# Altium integrated library Xilinx Spartan-3E.IntLib: 220 symbols (part 27 of 30)
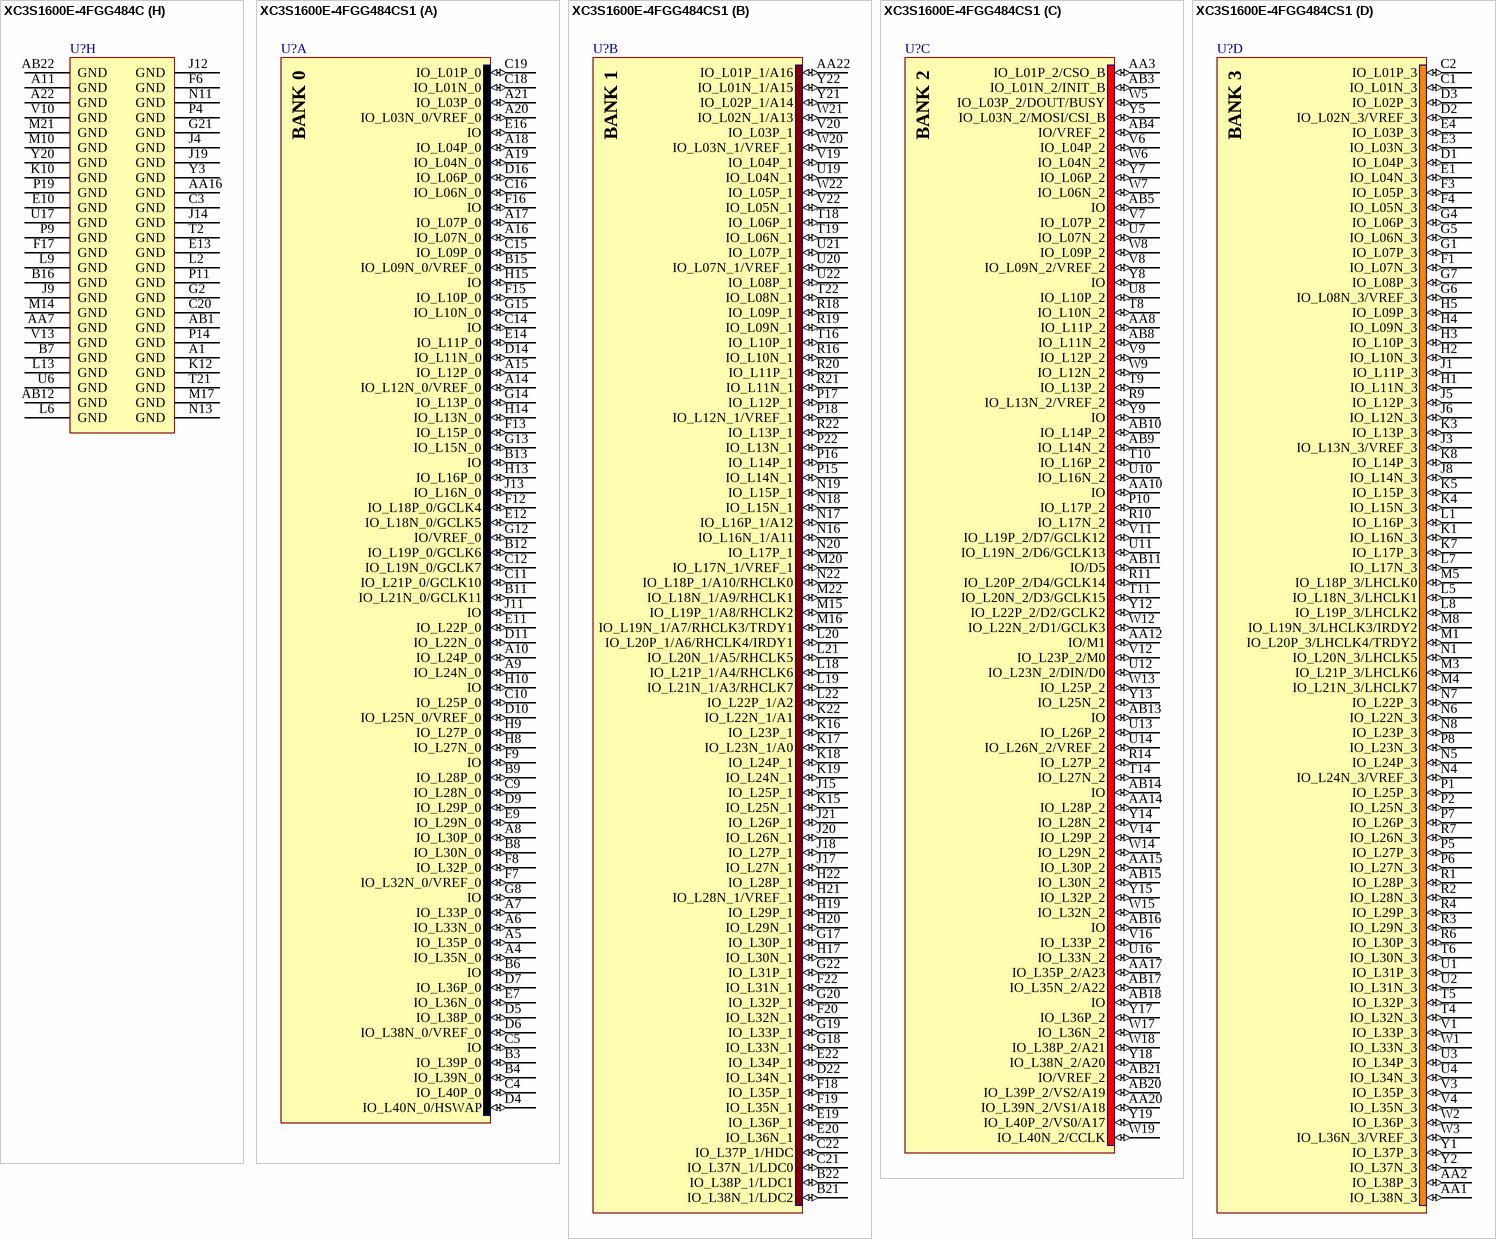
[diagram p220: symbols XC3S1600E-4FGG484C to XC3S1600E-4FGG484CS1]

## XC3S1600E-4FGG484C
designator U?
Spartan-3E 1.2V FPGA, 376 User I/Os, 484-Ball FBGA, Standard Performance, Commercial Grade, Pb-Free; Published: 6-Jun-2005; LatestRevisionDate: 30-Oct-2009; LatestRevisionNote: Updated to datasheet version 3.8 Aug-2009.; DatasheetVersion: ver3.8, Aug-2009; PackageVersion: ver1.1, Dec-2008; PackageReference: FGG484; Publisher: Altium Limited; PackageDescription: 484-Ball Fine Pitch Ball Grid Array 1.00 mm Pitch (FGG484) - Pb-Free; Supplier 1: Farnell; Supplier Part Number 1: 1762480; Supplier 2: Newark; Supplier Part Number 2: 52R3819; Code_JEDEC: MS-034-AAJ-1; Code_IPC: BGA100P22X22-484; ComponentLink1Description: Spartan-3E Datasheet; ComponentLink1URL: http://www.xilinx.com/support/documentation/data_sheets/ds312.pdf; ComponentLink2Description: FGG484 Package Drawing; ComponentLink2URL: http://www.xilinx.com/support/documentation/package_specs/fg484.pdf; ComponentLink3Description: Spartan-3E Documents; ComponentLink3URL: http://www.xilinx.com/support/documentation/spartan-3e.htm; ComponentLink4Description: Xilinx.com Home; ComponentLink4URL: http://www.xilinx.com
footprint FGG484 (BGA, 484-Leads, Body 23x23mm, Pitch 1mm)
signal-integrity model XC3S1600E_FGG484 (Spartan-3E)
part A pins: A4 IO_L35N_0 (io), A5 IO_L35P_0 (io), A6 IO_L33N_0 (io), A7 IO_L33P_0 (io), A8 IO_L30P_0 (io), A9 IO_L24N_0 (io), A10 IO_L24P_0 (io), A14 IO_L12N_0/VREF_0 (io), A15 IO_L12P_0 (io), A16 IO_L07N_0 (io), A17 IO_L07P_0 (io), A18 IO_L04P_0 (io), A19 IO_L04N_0 (io), A20 IO_L03N_0/VREF_0 (io), A21 IO_L03P_0 (io), B3 IO_L39P_0 (io), B4 IO_L39N_0 (io), B6 IO (io), B8 IO_L30N_0 (io), B9 IO_L28P_0 (io), B11 IO_L21N_0/GCLK11 (io), B12 IO_L19P_0/GCLK6 (io), B13 IO (io), B15 IO_L09N_0/VREF_0 (io), C4 IO_L40P_0 (io), C5 IO (io), C9 IO_L28N_0 (io), C10 IO_L25P_0 (io), C11 IO_L21P_0/GCLK10 (io), C12 IO_L19N_0/GCLK7 (io), C14 IO (io), C15 IO_L09P_0 (io), C16 IO_L06N_0 (io), C18 IO_L01N_0 (io), C19 IO_L01P_0 (io), D4 IO_L40N_0/HSWAP (io), D5 IO_L38P_0 (io), D6 IO_L38N_0/VREF_0 (io), D7 IO_L36P_0 (io), D9 IO_L29P_0 (io), D10 IO_L25N_0/VREF_0 (io), D11 IO_L22N_0 (io), D14 IO_L11N_0 (io), D16 IO_L06P_0 (io), E7 IO_L36N_0 (io), E9 IO_L29N_0 (io), E11 IO_L22P_0 (io), E12 IO_L18N_0/GCLK5 (io), E14 IO_L11P_0 (io), E16 IO (io), F7 IO_L32N_0/VREF_0 (io), F8 IO_L32P_0 (io), F9 IO (io), F12 IO_L18P_0/GCLK4 (io), F13 IO_L15P_0 (io), F15 IO_L10P_0 (io), F16 IO (io), G8 IO (io), G12 IO/VREF_0 (io), G13 IO_L15N_0 (io), G14 IO_L13P_0 (io), G15 IO_L10N_0 (io), H8 IO_L27N_0 (io), H9 IO_L27P_0 (io), H10 IO (io), H13 IO_L16P_0 (io), H14 IO_L13N_0 (io), H15 IO (io), J11 IO (io), J13 IO_L16N_0 (io)
part B pins: AA22 IO_L01P_1/A16 (io), B21 IO_L38N_1/LDC2 (io), B22 IO_L38P_1/LDC1 (io), C21 IO_L37N_1/LDC0 (io), C22 IO_L37P_1/HDC (io), D22 IO_L34N_1 (io), E19 IO_L36P_1 (io), E20 IO_L36N_1 (io), E22 IO_L34P_1 (io), F18 IO_L35P_1 (io), F19 IO_L35N_1 (io), F20 IO_L32N_1 (io), F22 IO_L31N_1 (io), G17 IO_L30P_1 (io), G18 IO_L33N_1 (io), G19 IO_L33P_1 (io), G20 IO_L32P_1 (io), G22 IO_L31P_1 (io), H17 IO_L30N_1 (io), H19 IO_L29P_1 (io), H20 IO_L29N_1 (io), H21 IO_L28N_1/VREF_1 (io), H22 IO_L28P_1 (io), J15 IO_L25P_1 (io), J17 IO_L27N_1 (io), J18 IO_L27P_1 (io), J20 IO_L26N_1 (io), J21 IO_L26P_1 (io), K15 IO_L25N_1 (io), K16 IO_L23P_1 (io), K17 IO_L23N_1/A0 (io), K18 IO_L24P_1 (io), K19 IO_L24N_1 (io), K22 IO_L22N_1/A1 (io), L18 IO_L21P_1/A4/RHCLK6 (io), L19 IO_L21N_1/A3/RHCLK7 (io), L20 IO_L20P_1/A6/RHCLK4/IRDY1 (io), L21 IO_L20N_1/A5/RHCLK5 (io), L22 IO_L22P_1/A2 (io), M15 IO_L19P_1/A8/RHCLK2 (io), M16 IO_L19N_1/A7/RHCLK3/TRDY1 (io), M20 IO_L17N_1/VREF_1 (io), M22 IO_L18N_1/A9/RHCLK1 (io), N16 IO_L16N_1/A11 (io), N17 IO_L16P_1/A12 (io), N18 IO_L15N_1 (io), N19 IO_L15P_1 (io), N20 IO_L17P_1 (io), N22 IO_L18P_1/A10/RHCLK0 (io), P15 IO_L14N_1 (io), P16 IO_L14P_1 (io), P17 IO_L12P_1 (io), P18 IO_L12N_1/VREF_1 (io), P22 IO_L13N_1 (io), R16 IO_L10N_1 (io), R18 IO_L09P_1 (io), R19 IO_L09N_1 (io), R20 IO_L11P_1 (io), R21 IO_L11N_1 (io), R22 IO_L13P_1 (io), T16 IO_L10P_1 (io), T18 IO_L06P_1 (io), T19 IO_L06N_1 (io), T22 IO_L08N_1 (io), U19 IO_L04N_1 (io), U20 IO_L07N_1/VREF_1 (io), U21 IO_L07P_1 (io), U22 IO_L08P_1 (io), V19 IO_L04P_1 (io), V20 IO_L03P_1 (io), V22 IO_L05N_1 (io), W20 IO_L03N_1/VREF_1 (io), W21 IO_L02N_1/A13 (io), W22 IO_L05P_1 (io), Y21 IO_L02P_1/A14 (io), Y22 IO_L01N_1/A15 (io)
part C pins: AA3 IO_L01P_2/CSO_B (io), AA8 IO_L11P_2 (io), AA10 IO (io), AA12 IO/M1 (io), AA14 IO_L28P_2 (io), AA15 IO_L30P_2 (io), AA17 IO_L35P_2/A23 (io), AA20 IO_L39N_2/VS1/A18 (io), AB3 IO_L01N_2/INIT_B (io), AB4 IO/VREF_2 (io), AB5 IO (io), AB8 IO_L11N_2 (io), AB9 IO_L14N_2 (io), AB10 IO_L14P_2 (io), AB11 IO/D5 (io), AB13 IO (io), AB14 IO (io), AB15 IO_L30N_2 (io), AB16 IO (io), AB17 IO_L35N_2/A22 (io), AB18 IO (io), AB20 IO_L39P_2/VS2/A19 (io), AB21 IO/VREF_2 (io), P10 IO_L17P_2 (io), R9 IO_L13N_2/VREF_2 (io), R10 IO_L17N_2 (io), R11 IO_L20P_2/D4/GCLK14 (io), R14 IO_L27P_2 (io), T8 IO_L10N_2 (io), T9 IO_L13P_2 (io), T10 IO_L16P_2 (io), T11 IO_L20N_2/D3/GCLK15 (io), T14 IO_L27N_2 (io), U7 IO_L07N_2 (io), U8 IO_L10P_2 (io), U10 IO_L16N_2 (io), U11 IO_L19N_2/D6/GCLK13 (io), U12 IO_L23N_2/DIN/D0 (io), U13 IO_L26P_2 (io), U14 IO_L26N_2/VREF_2 (io), U16 IO_L33N_2 (io), V6 IO_L04P_2 (io), V7 IO_L07P_2 (io), V8 IO_L09N_2/VREF_2 (io), V9 IO_L12P_2 (io), V11 IO_L19P_2/D7/GCLK12 (io), V12 IO_L23P_2/M0 (io), V14 IO_L29P_2 (io), V16 IO_L33P_2 (io), W5 IO_L03P_2/DOUT/BUSY (io), W6 IO_L04N_2 (io), W7 IO_L06N_2 (io), W8 IO_L09P_2 (io), W9 IO_L12N_2 (io), W12 IO_L22N_2/D1/GCLK3 (io), W13 IO_L25P_2 (io), W14 IO_L29N_2 (io), W15 IO_L32N_2 (io), W17 IO_L36N_2 (io), W18 IO_L38P_2/A21 (io), W19 IO_L40N_2/CCLK (io), Y5 IO_L03N_2/MOSI/CSI_B (io), Y7 IO_L06P_2 (io), Y8 IO (io), Y9 IO (io), Y12 IO_L22P_2/D2/GCLK2 (io), Y13 IO_L25N_2 (io), Y14 IO_L28N_2 (io), Y15 IO_L32P_2 (io), Y17 IO_L36P_2 (io), Y18 IO_L38N_2/A20 (io), Y19 IO_L40P_2/VS0/A17 (io)
part D pins: AA1 IO_L38N_3 (io), AA2 IO_L38P_3 (io), C1 IO_L01N_3 (io), C2 IO_L01P_3 (io), D1 IO_L04P_3 (io), D2 IO_L02N_3/VREF_3 (io), D3 IO_L02P_3 (io), E1 IO_L04N_3 (io), E3 IO_L03N_3 (io), E4 IO_L03P_3 (io), F1 IO_L07N_3 (io), F3 IO_L05P_3 (io), F4 IO_L05N_3 (io), G1 IO_L07P_3 (io), G4 IO_L06P_3 (io), G5 IO_L06N_3 (io), G6 IO_L08N_3/VREF_3 (io), G7 IO_L08P_3 (io), H1 IO_L11N_3 (io), H2 IO_L10N_3 (io), H3 IO_L10P_3 (io), H4 IO_L09N_3 (io), H5 IO_L09P_3 (io), J1 IO_L11P_3 (io), J3 IO_L13N_3/VREF_3 (io), J5 IO_L12P_3 (io), J6 IO_L12N_3 (io), J8 IO_L14N_3 (io), K1 IO_L16N_3 (io), K3 IO_L13P_3 (io), K4 IO_L15N_3 (io), K5 IO_L15P_3 (io), K7 IO_L17P_3 (io), K8 IO_L14P_3 (io), L1 IO_L16P_3 (io), L5 IO_L18N_3/LHCLK1 (io), L7 IO_L17N_3 (io), L8 IO_L19P_3/LHCLK2 (io), M1 IO_L20P_3/LHCLK4/TRDY2 (io), M3 IO_L21P_3/LHCLK6 (io), M4 IO_L21N_3/LHCLK7 (io), M5 IO_L18P_3/LHCLK0 (io), M8 IO_L19N_3/LHCLK3/IRDY2 (io), N1 IO_L20N_3/LHCLK5 (io), N4 IO_L24N_3/VREF_3 (io), N5 IO_L24P_3 (io), N6 IO_L22N_3 (io), N7 IO_L22P_3 (io), N8 IO_L23P_3 (io), P1 IO_L25P_3 (io), P2 IO_L25N_3 (io), P5 IO_L27P_3 (io), P6 IO_L27N_3 (io), P7 IO_L26P_3 (io), P8 IO_L23N_3 (io), R1 IO_L28P_3 (io), R2 IO_L28N_3 (io), R3 IO_L29N_3 (io), R4 IO_L29P_3 (io), R6 IO_L30P_3 (io), R7 IO_L26N_3 (io), T4 IO_L32N_3 (io), T5 IO_L32P_3 (io), T6 IO_L30N_3 (io), U1 IO_L31P_3 (io), U2 IO_L31N_3 (io), U3 IO_L34P_3 (io), U4 IO_L34N_3 (io), V1 IO_L33P_3 (io), V3 IO_L35P_3 (io), V4 IO_L35N_3 (io), W1 IO_L33N_3 (io), W2 IO_L36P_3 (io), W3 IO_L36N_3/VREF_3 (io), Y1 IO_L37P_3 (io), Y2 IO_L37N_3 (io)
part E pins: A2 IP_L37P_0 (in), A3 IP_L37N_0 (in), A12 IP_L17N_0 (in), A13 IP_L17P_0 (in), AA4 IP_L02N_2 (in), AA6 IP_L05P_2 (in), AA11 IP_L18N_2/VREF_2 (in), AA19 IP_L37N_2 (in), AB2 IP (in), AB6 IP_L08P_2 (in), AB7 IP_L08N_2 (in), AB19 IP_L37P_2 (in), B17 IP_L05P_0 (in), B19 IP (in), C6 IP_L34P_0 (in), C7 IP_L34N_0 (in), C8 IP_L31N_0 (in), C13 IP_L14P_0 (in), C17 IP_L05N_0 (in), D8 IP_L31P_0 (in), D13 IP_L14N_0 (in), D15 IP_L08P_0 (in), D17 IP_L02N_0 (in), D18 IP_L02P_0 (in), D20 IP (in), D21 IP/VREF_1 (in), E6 IP (in), E15 IP_L08N_0 (in), F2 IP (in), F5 IP (in), F10 IP_L23N_0 (in), F11 IP_L23P_0 (in), F21 IP (in), G3 IP (in), G9 IP_L26N_0 (in), G10 IP_L26P_0 (in), G16 IP (in), H7 IP (in), H11 IP_L20N_0/GCLK9 (in), H12 IP_L20P_0/GCLK8 (in), H16 IP (in), J7 IP (in), J16 IP (in), J22 IP (in), K2 IP (in), K6 IP (in), K20 IP (in), L3 IP/VREF_3 (in), L15 IP (in), L17 IP/VREF_1 (in), M2 IP (in), M6 IP (in), M18 IP (in), N3 IP (in), N15 IP (in), N21 IP (in), P3 IP (in), P12 IP_L21N_2/M2/GCLK1 (in), P20 IP (in), R8 IP (in), R12 IP_L21P_2/RDWR_B/GCLK0 (in), R13 IP_L24N_2 (in), R15 IP (in), T1 IP (in), T3 IP/VREF_3 (in), T7 IP (in), T13 IP_L24P_2 (in), T15 IP_L31N_2/VREF_2 (in), T17 IP (in), T20 IP (in), U5 IP (in), U15 IP_L31P_2 (in), U18 IP (in), V17 IP (in), W4 IP (in), W10 IP_L15P_2 (in), W16 IP_L34P_2 (in), Y4 IP_L02P_2 (in), Y6 IP_L05N_2 (in), Y10 IP_L15N_2 (in), Y11 IP_L18P_2 (in), Y16 IP_L34N_2 (in)
part F pins: AA21 DONE (io), B1 PROG_B (in), B2 TDI (in), B20 TDO (out), D19 TMS (in), E17 TCK (in)
part G pins: AA5 VCCO_2 (power), AA9 VCCO_2 (power), AA13 VCCO_2 (power), AA18 VCCO_2 (power), B5 VCCO_0 (power), B10 VCCO_0 (power), B14 VCCO_0 (power), B18 VCCO_0 (power), D12 VCCAUX (power), E2 VCCO_3 (power), E5 VCCAUX (power), E8 VCCO_0 (power), E18 VCCAUX (power), E21 VCCO_1 (power), F14 VCCO_0 (power), G11 VCCO_0 (power), H6 VCCO_3 (power), H18 VCCO_1 (power), J2 VCCO_3 (power), J10 VCCINT (power), K9 VCCINT (power), K11 VCCINT (power), K13 VCCINT (power), K14 VCCAUX (power), K21 VCCO_1 (power), L4 VCCAUX (power), L10 VCCINT (power), L11 VCCINT (power), L12 VCCINT (power), L14 VCCINT (power), L16 VCCO_1 (power), M7 VCCO_3 (power), M9 VCCINT (power), M11 VCCINT (power), M12 VCCINT (power), M13 VCCINT (power), M19 VCCAUX (power), N2 VCCO_3 (power), N9 VCCAUX (power), N10 VCCINT (power), N12 VCCINT (power), N14 VCCINT (power), P13 VCCINT (power), P21 VCCO_1 (power), R5 VCCO_3 (power), R17 VCCO_1 (power), T12 VCCO_2 (power), U9 VCCO_2 (power), V2 VCCO_3 (power), V5 VCCAUX (power), V15 VCCO_2 (power), V18 VCCAUX (power), V21 VCCO_1 (power), W11 VCCAUX (power)
part H pins: A1 GND (power), A11 GND (power), A22 GND (power), AA7 GND (power), AA16 GND (power), AB1 GND (power), AB12 GND (power), AB22 GND (power), B7 GND (power), B16 GND (power), C3 GND (power), C20 GND (power), E10 GND (power), E13 GND (power), F6 GND (power), F17 GND (power), G2 GND (power), G21 GND (power), J4 GND (power), J9 GND (power), J12 GND (power), J14 GND (power), J19 GND (power), K10 GND (power), K12 GND (power), L2 GND (power), L6 GND (power), L9 GND (power), L13 GND (power), M10 GND (power), M14 GND (power), M17 GND (power), M21 GND (power), N11 GND (power), N13 GND (power), P4 GND (power), P9 GND (power), P11 GND (power), P14 GND (power), P19 GND (power), T2 GND (power), T21 GND (power), U6 GND (power), U17 GND (power), V10 GND (power), V13 GND (power), Y3 GND (power), Y20 GND (power)
part A text: BANK 0
part B text: BANK 1
part C text: BANK 2
part D text: BANK 3

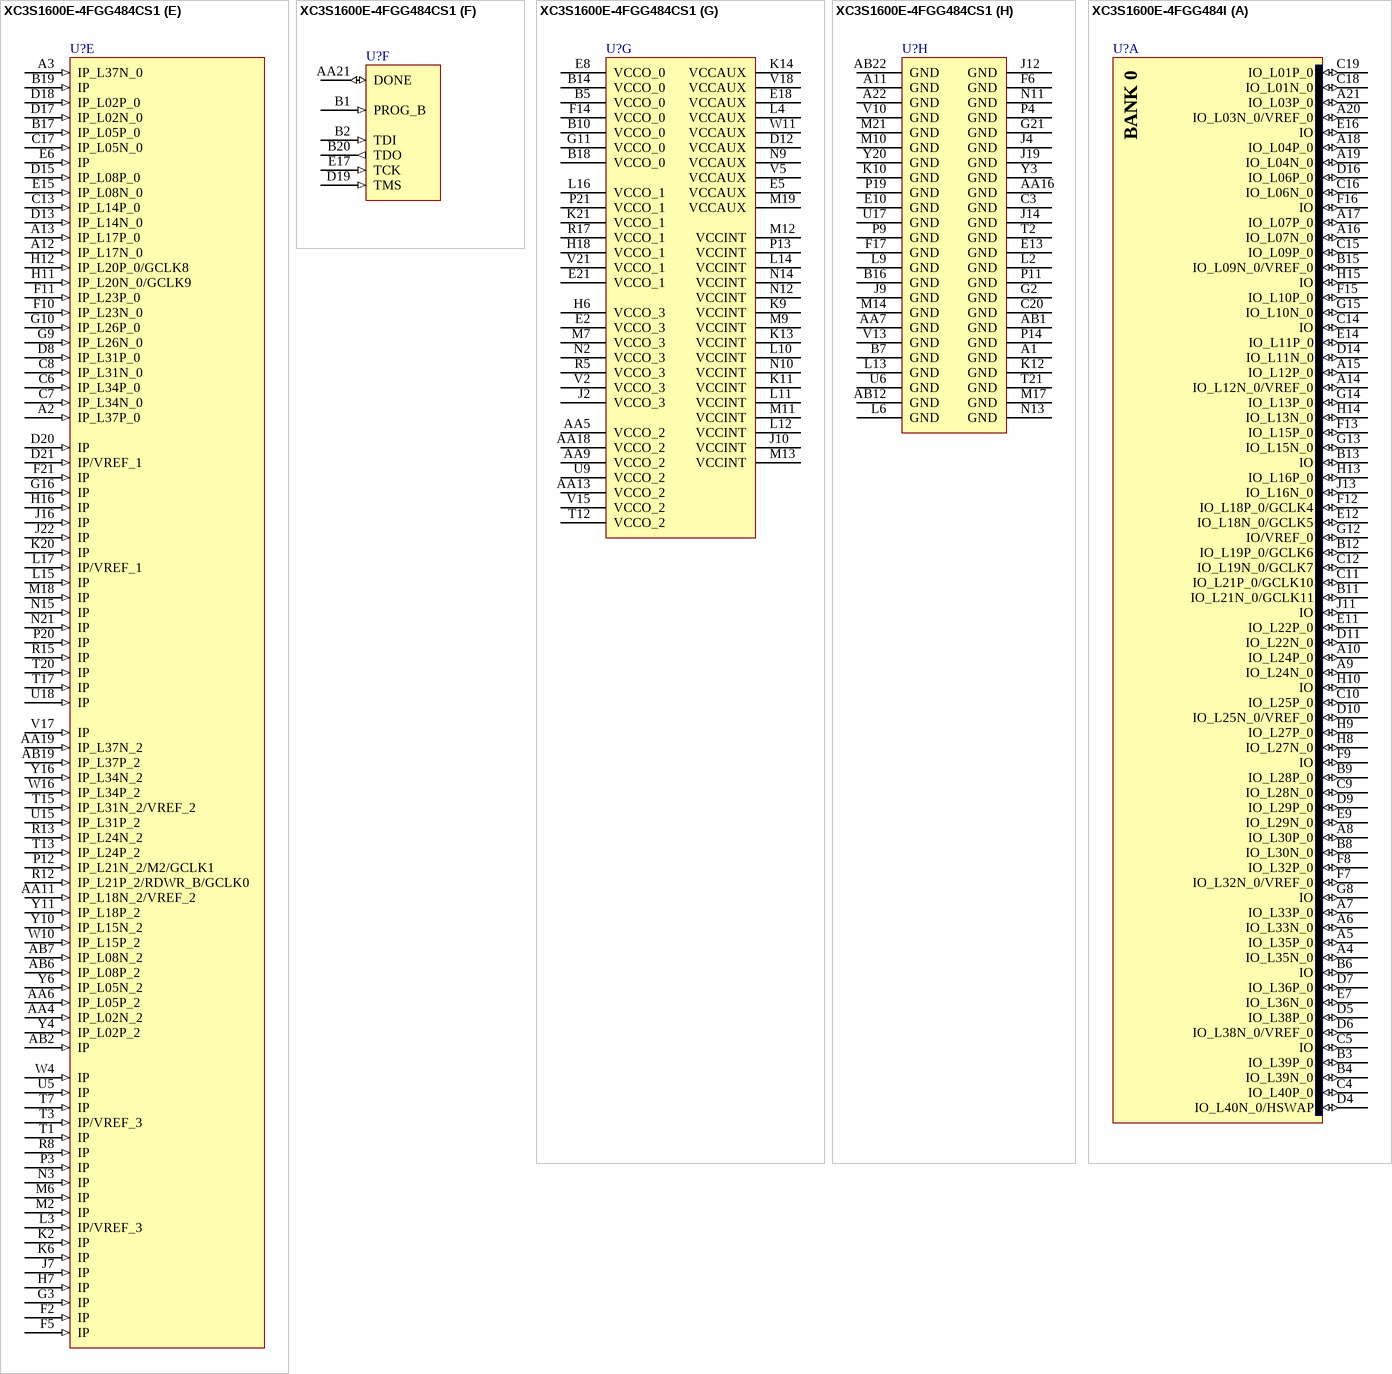
[diagram p172: symbols XC3S1600E-4FGG484CS1 to XC3S1600E-4FGG484I]

## XC3S1600E-4FGG484CS1
designator U?
Spartan-3E 1.2V FPGA, 376 User I/Os, 484-Ball FBGA, Standard Performance, Commercial Grade, Stepping 1, Pb-Free; Published: 14-May-2007; LatestRevisionDate: 30-Oct-2009; LatestRevisionNote: Updated to datasheet version 3.8 Aug-2009.; DatasheetVersion: ver3.8, Aug-2009; PackageVersion: ver1.1, Dec-2008; PackageReference: FGG484; Publisher: Altium Limited; PackageDescription: 484-Ball Fine Pitch Ball Grid Array 1.00 mm Pitch (FGG484) - Pb-Free; Code_JEDEC: MS-034-AAJ-1; Code_IPC: BGA100P22X22-484; ComponentLink1Description: Spartan-3E Datasheet; ComponentLink1URL: http://www.xilinx.com/support/documentation/data_sheets/ds312.pdf; ComponentLink2Description: FGG484 Package Drawing; ComponentLink2URL: http://www.xilinx.com/support/documentation/package_specs/fg484.pdf; ComponentLink3Description: Spartan-3E Documents; ComponentLink3URL: http://www.xilinx.com/support/documentation/spartan-3e.htm; ComponentLink4Description: Xilinx.com Home; ComponentLink4URL: http://www.xilinx.com
footprint FGG484 (BGA, 484-Leads, Body 23x23mm, Pitch 1mm)
signal-integrity model XC3S1600E_FGG484 (Spartan-3E)
part A pins: A4 IO_L35N_0 (io), A5 IO_L35P_0 (io), A6 IO_L33N_0 (io), A7 IO_L33P_0 (io), A8 IO_L30P_0 (io), A9 IO_L24N_0 (io), A10 IO_L24P_0 (io), A14 IO_L12N_0/VREF_0 (io), A15 IO_L12P_0 (io), A16 IO_L07N_0 (io), A17 IO_L07P_0 (io), A18 IO_L04P_0 (io), A19 IO_L04N_0 (io), A20 IO_L03N_0/VREF_0 (io), A21 IO_L03P_0 (io), B3 IO_L39P_0 (io), B4 IO_L39N_0 (io), B6 IO (io), B8 IO_L30N_0 (io), B9 IO_L28P_0 (io), B11 IO_L21N_0/GCLK11 (io), B12 IO_L19P_0/GCLK6 (io), B13 IO (io), B15 IO_L09N_0/VREF_0 (io), C4 IO_L40P_0 (io), C5 IO (io), C9 IO_L28N_0 (io), C10 IO_L25P_0 (io), C11 IO_L21P_0/GCLK10 (io), C12 IO_L19N_0/GCLK7 (io), C14 IO (io), C15 IO_L09P_0 (io), C16 IO_L06N_0 (io), C18 IO_L01N_0 (io), C19 IO_L01P_0 (io), D4 IO_L40N_0/HSWAP (io), D5 IO_L38P_0 (io), D6 IO_L38N_0/VREF_0 (io), D7 IO_L36P_0 (io), D9 IO_L29P_0 (io), D10 IO_L25N_0/VREF_0 (io), D11 IO_L22N_0 (io), D14 IO_L11N_0 (io), D16 IO_L06P_0 (io), E7 IO_L36N_0 (io), E9 IO_L29N_0 (io), E11 IO_L22P_0 (io), E12 IO_L18N_0/GCLK5 (io), E14 IO_L11P_0 (io), E16 IO (io), F7 IO_L32N_0/VREF_0 (io), F8 IO_L32P_0 (io), F9 IO (io), F12 IO_L18P_0/GCLK4 (io), F13 IO_L15P_0 (io), F15 IO_L10P_0 (io), F16 IO (io), G8 IO (io), G12 IO/VREF_0 (io), G13 IO_L15N_0 (io), G14 IO_L13P_0 (io), G15 IO_L10N_0 (io), H8 IO_L27N_0 (io), H9 IO_L27P_0 (io), H10 IO (io), H13 IO_L16P_0 (io), H14 IO_L13N_0 (io), H15 IO (io), J11 IO (io), J13 IO_L16N_0 (io)
part B pins: AA22 IO_L01P_1/A16 (io), B21 IO_L38N_1/LDC2 (io), B22 IO_L38P_1/LDC1 (io), C21 IO_L37N_1/LDC0 (io), C22 IO_L37P_1/HDC (io), D22 IO_L34N_1 (io), E19 IO_L36P_1 (io), E20 IO_L36N_1 (io), E22 IO_L34P_1 (io), F18 IO_L35P_1 (io), F19 IO_L35N_1 (io), F20 IO_L32N_1 (io), F22 IO_L31N_1 (io), G17 IO_L30P_1 (io), G18 IO_L33N_1 (io), G19 IO_L33P_1 (io), G20 IO_L32P_1 (io), G22 IO_L31P_1 (io), H17 IO_L30N_1 (io), H19 IO_L29P_1 (io), H20 IO_L29N_1 (io), H21 IO_L28N_1/VREF_1 (io), H22 IO_L28P_1 (io), J15 IO_L25P_1 (io), J17 IO_L27N_1 (io), J18 IO_L27P_1 (io), J20 IO_L26N_1 (io), J21 IO_L26P_1 (io), K15 IO_L25N_1 (io), K16 IO_L23P_1 (io), K17 IO_L23N_1/A0 (io), K18 IO_L24P_1 (io), K19 IO_L24N_1 (io), K22 IO_L22N_1/A1 (io), L18 IO_L21P_1/A4/RHCLK6 (io), L19 IO_L21N_1/A3/RHCLK7 (io), L20 IO_L20P_1/A6/RHCLK4/IRDY1 (io), L21 IO_L20N_1/A5/RHCLK5 (io), L22 IO_L22P_1/A2 (io), M15 IO_L19P_1/A8/RHCLK2 (io), M16 IO_L19N_1/A7/RHCLK3/TRDY1 (io), M20 IO_L17N_1/VREF_1 (io), M22 IO_L18N_1/A9/RHCLK1 (io), N16 IO_L16N_1/A11 (io), N17 IO_L16P_1/A12 (io), N18 IO_L15N_1 (io), N19 IO_L15P_1 (io), N20 IO_L17P_1 (io), N22 IO_L18P_1/A10/RHCLK0 (io), P15 IO_L14N_1 (io), P16 IO_L14P_1 (io), P17 IO_L12P_1 (io), P18 IO_L12N_1/VREF_1 (io), P22 IO_L13N_1 (io), R16 IO_L10N_1 (io), R18 IO_L09P_1 (io), R19 IO_L09N_1 (io), R20 IO_L11P_1 (io), R21 IO_L11N_1 (io), R22 IO_L13P_1 (io), T16 IO_L10P_1 (io), T18 IO_L06P_1 (io), T19 IO_L06N_1 (io), T22 IO_L08N_1 (io), U19 IO_L04N_1 (io), U20 IO_L07N_1/VREF_1 (io), U21 IO_L07P_1 (io), U22 IO_L08P_1 (io), V19 IO_L04P_1 (io), V20 IO_L03P_1 (io), V22 IO_L05N_1 (io), W20 IO_L03N_1/VREF_1 (io), W21 IO_L02N_1/A13 (io), W22 IO_L05P_1 (io), Y21 IO_L02P_1/A14 (io), Y22 IO_L01N_1/A15 (io)
part C pins: AA3 IO_L01P_2/CSO_B (io), AA8 IO_L11P_2 (io), AA10 IO (io), AA12 IO/M1 (io), AA14 IO_L28P_2 (io), AA15 IO_L30P_2 (io), AA17 IO_L35P_2/A23 (io), AA20 IO_L39N_2/VS1/A18 (io), AB3 IO_L01N_2/INIT_B (io), AB4 IO/VREF_2 (io), AB5 IO (io), AB8 IO_L11N_2 (io), AB9 IO_L14N_2 (io), AB10 IO_L14P_2 (io), AB11 IO/D5 (io), AB13 IO (io), AB14 IO (io), AB15 IO_L30N_2 (io), AB16 IO (io), AB17 IO_L35N_2/A22 (io), AB18 IO (io), AB20 IO_L39P_2/VS2/A19 (io), AB21 IO/VREF_2 (io), P10 IO_L17P_2 (io), R9 IO_L13N_2/VREF_2 (io), R10 IO_L17N_2 (io), R11 IO_L20P_2/D4/GCLK14 (io), R14 IO_L27P_2 (io), T8 IO_L10N_2 (io), T9 IO_L13P_2 (io), T10 IO_L16P_2 (io), T11 IO_L20N_2/D3/GCLK15 (io), T14 IO_L27N_2 (io), U7 IO_L07N_2 (io), U8 IO_L10P_2 (io), U10 IO_L16N_2 (io), U11 IO_L19N_2/D6/GCLK13 (io), U12 IO_L23N_2/DIN/D0 (io), U13 IO_L26P_2 (io), U14 IO_L26N_2/VREF_2 (io), U16 IO_L33N_2 (io), V6 IO_L04P_2 (io), V7 IO_L07P_2 (io), V8 IO_L09N_2/VREF_2 (io), V9 IO_L12P_2 (io), V11 IO_L19P_2/D7/GCLK12 (io), V12 IO_L23P_2/M0 (io), V14 IO_L29P_2 (io), V16 IO_L33P_2 (io), W5 IO_L03P_2/DOUT/BUSY (io), W6 IO_L04N_2 (io), W7 IO_L06N_2 (io), W8 IO_L09P_2 (io), W9 IO_L12N_2 (io), W12 IO_L22N_2/D1/GCLK3 (io), W13 IO_L25P_2 (io), W14 IO_L29N_2 (io), W15 IO_L32N_2 (io), W17 IO_L36N_2 (io), W18 IO_L38P_2/A21 (io), W19 IO_L40N_2/CCLK (io), Y5 IO_L03N_2/MOSI/CSI_B (io), Y7 IO_L06P_2 (io), Y8 IO (io), Y9 IO (io), Y12 IO_L22P_2/D2/GCLK2 (io), Y13 IO_L25N_2 (io), Y14 IO_L28N_2 (io), Y15 IO_L32P_2 (io), Y17 IO_L36P_2 (io), Y18 IO_L38N_2/A20 (io), Y19 IO_L40P_2/VS0/A17 (io)
part D pins: AA1 IO_L38N_3 (io), AA2 IO_L38P_3 (io), C1 IO_L01N_3 (io), C2 IO_L01P_3 (io), D1 IO_L04P_3 (io), D2 IO_L02N_3/VREF_3 (io), D3 IO_L02P_3 (io), E1 IO_L04N_3 (io), E3 IO_L03N_3 (io), E4 IO_L03P_3 (io), F1 IO_L07N_3 (io), F3 IO_L05P_3 (io), F4 IO_L05N_3 (io), G1 IO_L07P_3 (io), G4 IO_L06P_3 (io), G5 IO_L06N_3 (io), G6 IO_L08N_3/VREF_3 (io), G7 IO_L08P_3 (io), H1 IO_L11N_3 (io), H2 IO_L10N_3 (io), H3 IO_L10P_3 (io), H4 IO_L09N_3 (io), H5 IO_L09P_3 (io), J1 IO_L11P_3 (io), J3 IO_L13N_3/VREF_3 (io), J5 IO_L12P_3 (io), J6 IO_L12N_3 (io), J8 IO_L14N_3 (io), K1 IO_L16N_3 (io), K3 IO_L13P_3 (io), K4 IO_L15N_3 (io), K5 IO_L15P_3 (io), K7 IO_L17P_3 (io), K8 IO_L14P_3 (io), L1 IO_L16P_3 (io), L5 IO_L18N_3/LHCLK1 (io), L7 IO_L17N_3 (io), L8 IO_L19P_3/LHCLK2 (io), M1 IO_L20P_3/LHCLK4/TRDY2 (io), M3 IO_L21P_3/LHCLK6 (io), M4 IO_L21N_3/LHCLK7 (io), M5 IO_L18P_3/LHCLK0 (io), M8 IO_L19N_3/LHCLK3/IRDY2 (io), N1 IO_L20N_3/LHCLK5 (io), N4 IO_L24N_3/VREF_3 (io), N5 IO_L24P_3 (io), N6 IO_L22N_3 (io), N7 IO_L22P_3 (io), N8 IO_L23P_3 (io), P1 IO_L25P_3 (io), P2 IO_L25N_3 (io), P5 IO_L27P_3 (io), P6 IO_L27N_3 (io), P7 IO_L26P_3 (io), P8 IO_L23N_3 (io), R1 IO_L28P_3 (io), R2 IO_L28N_3 (io), R3 IO_L29N_3 (io), R4 IO_L29P_3 (io), R6 IO_L30P_3 (io), R7 IO_L26N_3 (io), T4 IO_L32N_3 (io), T5 IO_L32P_3 (io), T6 IO_L30N_3 (io), U1 IO_L31P_3 (io), U2 IO_L31N_3 (io), U3 IO_L34P_3 (io), U4 IO_L34N_3 (io), V1 IO_L33P_3 (io), V3 IO_L35P_3 (io), V4 IO_L35N_3 (io), W1 IO_L33N_3 (io), W2 IO_L36P_3 (io), W3 IO_L36N_3/VREF_3 (io), Y1 IO_L37P_3 (io), Y2 IO_L37N_3 (io)
part E pins: A2 IP_L37P_0 (in), A3 IP_L37N_0 (in), A12 IP_L17N_0 (in), A13 IP_L17P_0 (in), AA4 IP_L02N_2 (in), AA6 IP_L05P_2 (in), AA11 IP_L18N_2/VREF_2 (in), AA19 IP_L37N_2 (in), AB2 IP (in), AB6 IP_L08P_2 (in), AB7 IP_L08N_2 (in), AB19 IP_L37P_2 (in), B17 IP_L05P_0 (in), B19 IP (in), C6 IP_L34P_0 (in), C7 IP_L34N_0 (in), C8 IP_L31N_0 (in), C13 IP_L14P_0 (in), C17 IP_L05N_0 (in), D8 IP_L31P_0 (in), D13 IP_L14N_0 (in), D15 IP_L08P_0 (in), D17 IP_L02N_0 (in), D18 IP_L02P_0 (in), D20 IP (in), D21 IP/VREF_1 (in), E6 IP (in), E15 IP_L08N_0 (in), F2 IP (in), F5 IP (in), F10 IP_L23N_0 (in), F11 IP_L23P_0 (in), F21 IP (in), G3 IP (in), G9 IP_L26N_0 (in), G10 IP_L26P_0 (in), G16 IP (in), H7 IP (in), H11 IP_L20N_0/GCLK9 (in), H12 IP_L20P_0/GCLK8 (in), H16 IP (in), J7 IP (in), J16 IP (in), J22 IP (in), K2 IP (in), K6 IP (in), K20 IP (in), L3 IP/VREF_3 (in), L15 IP (in), L17 IP/VREF_1 (in), M2 IP (in), M6 IP (in), M18 IP (in), N3 IP (in), N15 IP (in), N21 IP (in), P3 IP (in), P12 IP_L21N_2/M2/GCLK1 (in), P20 IP (in), R8 IP (in), R12 IP_L21P_2/RDWR_B/GCLK0 (in), R13 IP_L24N_2 (in), R15 IP (in), T1 IP (in), T3 IP/VREF_3 (in), T7 IP (in), T13 IP_L24P_2 (in), T15 IP_L31N_2/VREF_2 (in), T17 IP (in), T20 IP (in), U5 IP (in), U15 IP_L31P_2 (in), U18 IP (in), V17 IP (in), W4 IP (in), W10 IP_L15P_2 (in), W16 IP_L34P_2 (in), Y4 IP_L02P_2 (in), Y6 IP_L05N_2 (in), Y10 IP_L15N_2 (in), Y11 IP_L18P_2 (in), Y16 IP_L34N_2 (in)
part F pins: AA21 DONE (io), B1 PROG_B (in), B2 TDI (in), B20 TDO (out), D19 TMS (in), E17 TCK (in)
part G pins: AA5 VCCO_2 (power), AA9 VCCO_2 (power), AA13 VCCO_2 (power), AA18 VCCO_2 (power), B5 VCCO_0 (power), B10 VCCO_0 (power), B14 VCCO_0 (power), B18 VCCO_0 (power), D12 VCCAUX (power), E2 VCCO_3 (power), E5 VCCAUX (power), E8 VCCO_0 (power), E18 VCCAUX (power), E21 VCCO_1 (power), F14 VCCO_0 (power), G11 VCCO_0 (power), H6 VCCO_3 (power), H18 VCCO_1 (power), J2 VCCO_3 (power), J10 VCCINT (power), K9 VCCINT (power), K11 VCCINT (power), K13 VCCINT (power), K14 VCCAUX (power), K21 VCCO_1 (power), L4 VCCAUX (power), L10 VCCINT (power), L11 VCCINT (power), L12 VCCINT (power), L14 VCCINT (power), L16 VCCO_1 (power), M7 VCCO_3 (power), M9 VCCINT (power), M11 VCCINT (power), M12 VCCINT (power), M13 VCCINT (power), M19 VCCAUX (power), N2 VCCO_3 (power), N9 VCCAUX (power), N10 VCCINT (power), N12 VCCINT (power), N14 VCCINT (power), P13 VCCINT (power), P21 VCCO_1 (power), R5 VCCO_3 (power), R17 VCCO_1 (power), T12 VCCO_2 (power), U9 VCCO_2 (power), V2 VCCO_3 (power), V5 VCCAUX (power), V15 VCCO_2 (power), V18 VCCAUX (power), V21 VCCO_1 (power), W11 VCCAUX (power)
part H pins: A1 GND (power), A11 GND (power), A22 GND (power), AA7 GND (power), AA16 GND (power), AB1 GND (power), AB12 GND (power), AB22 GND (power), B7 GND (power), B16 GND (power), C3 GND (power), C20 GND (power), E10 GND (power), E13 GND (power), F6 GND (power), F17 GND (power), G2 GND (power), G21 GND (power), J4 GND (power), J9 GND (power), J12 GND (power), J14 GND (power), J19 GND (power), K10 GND (power), K12 GND (power), L2 GND (power), L6 GND (power), L9 GND (power), L13 GND (power), M10 GND (power), M14 GND (power), M17 GND (power), M21 GND (power), N11 GND (power), N13 GND (power), P4 GND (power), P9 GND (power), P11 GND (power), P14 GND (power), P19 GND (power), T2 GND (power), T21 GND (power), U6 GND (power), U17 GND (power), V10 GND (power), V13 GND (power), Y3 GND (power), Y20 GND (power)
part A text: BANK 0
part B text: BANK 1
part C text: BANK 2
part D text: BANK 3

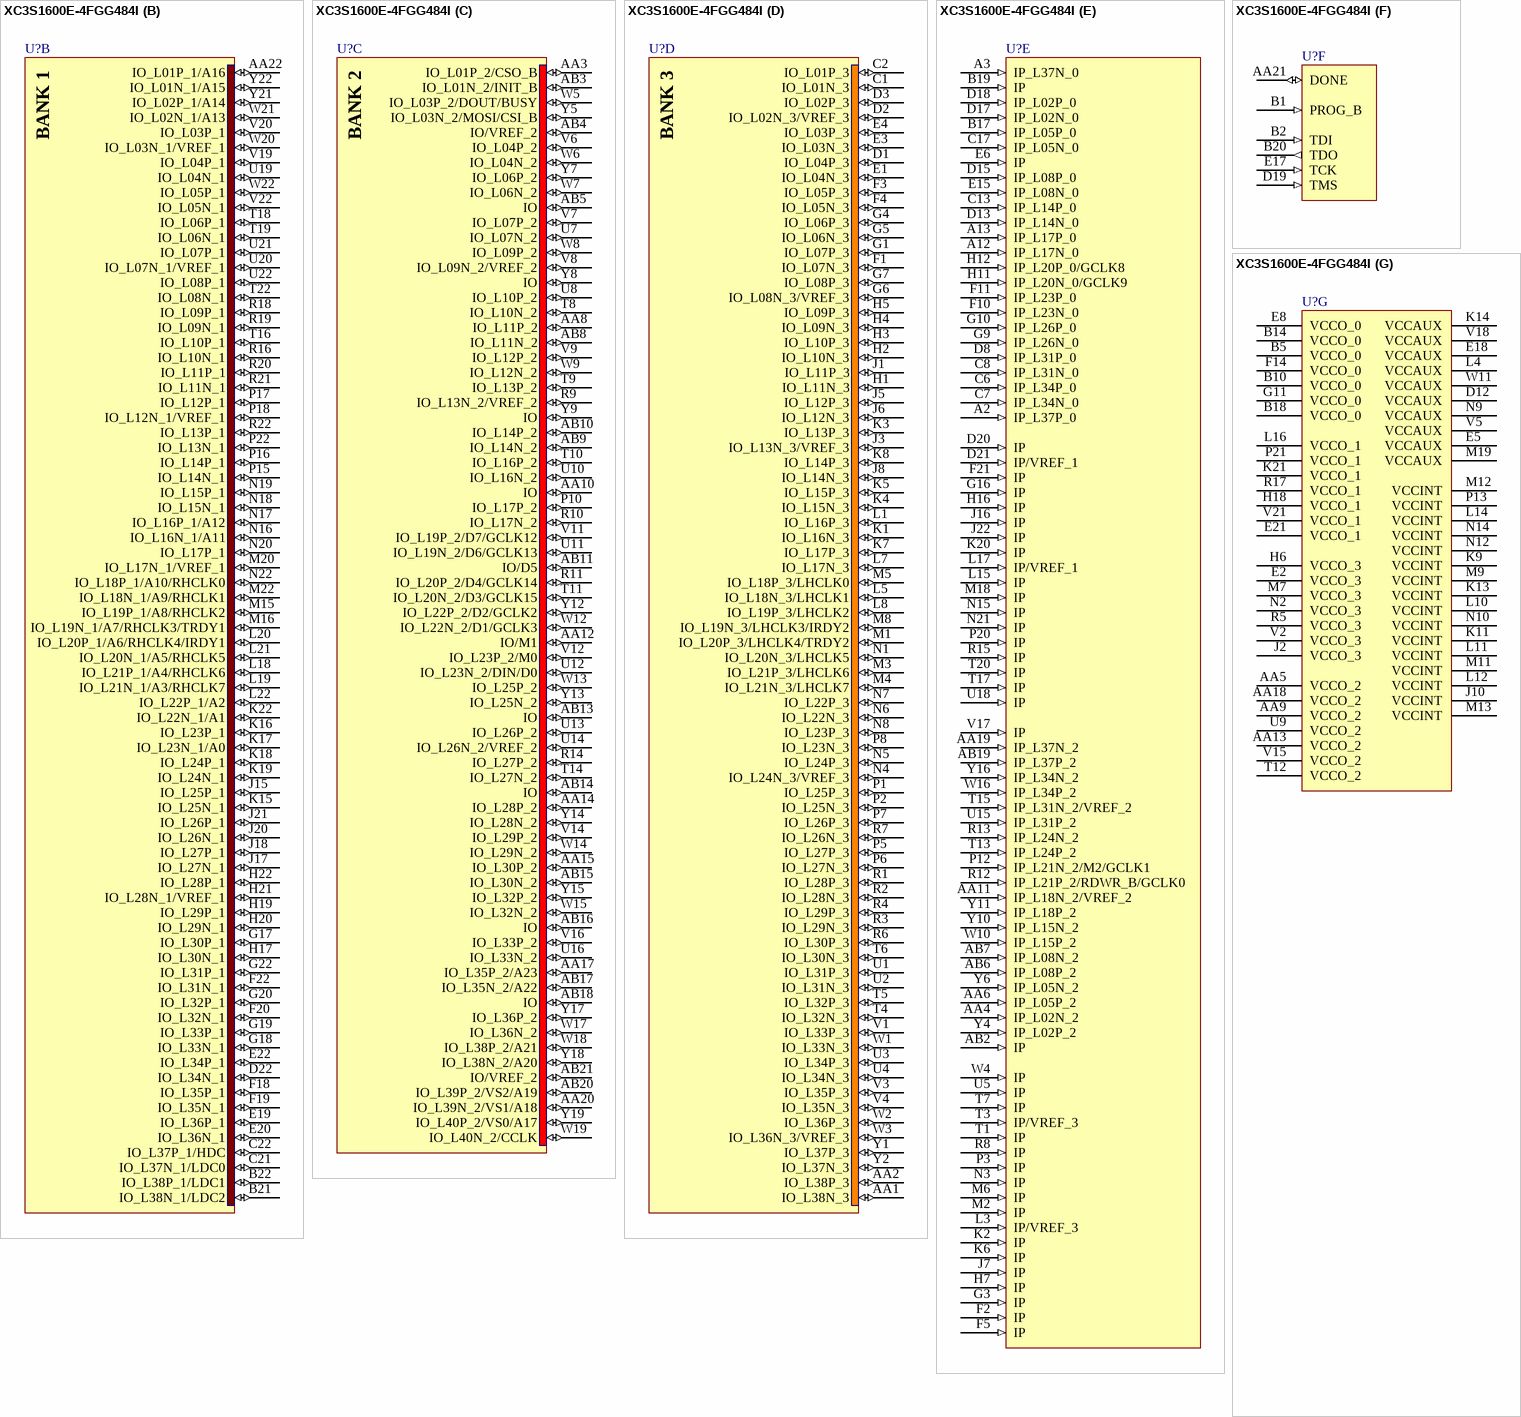
[diagram p173: symbol XC3S1600E-4FGG484I]

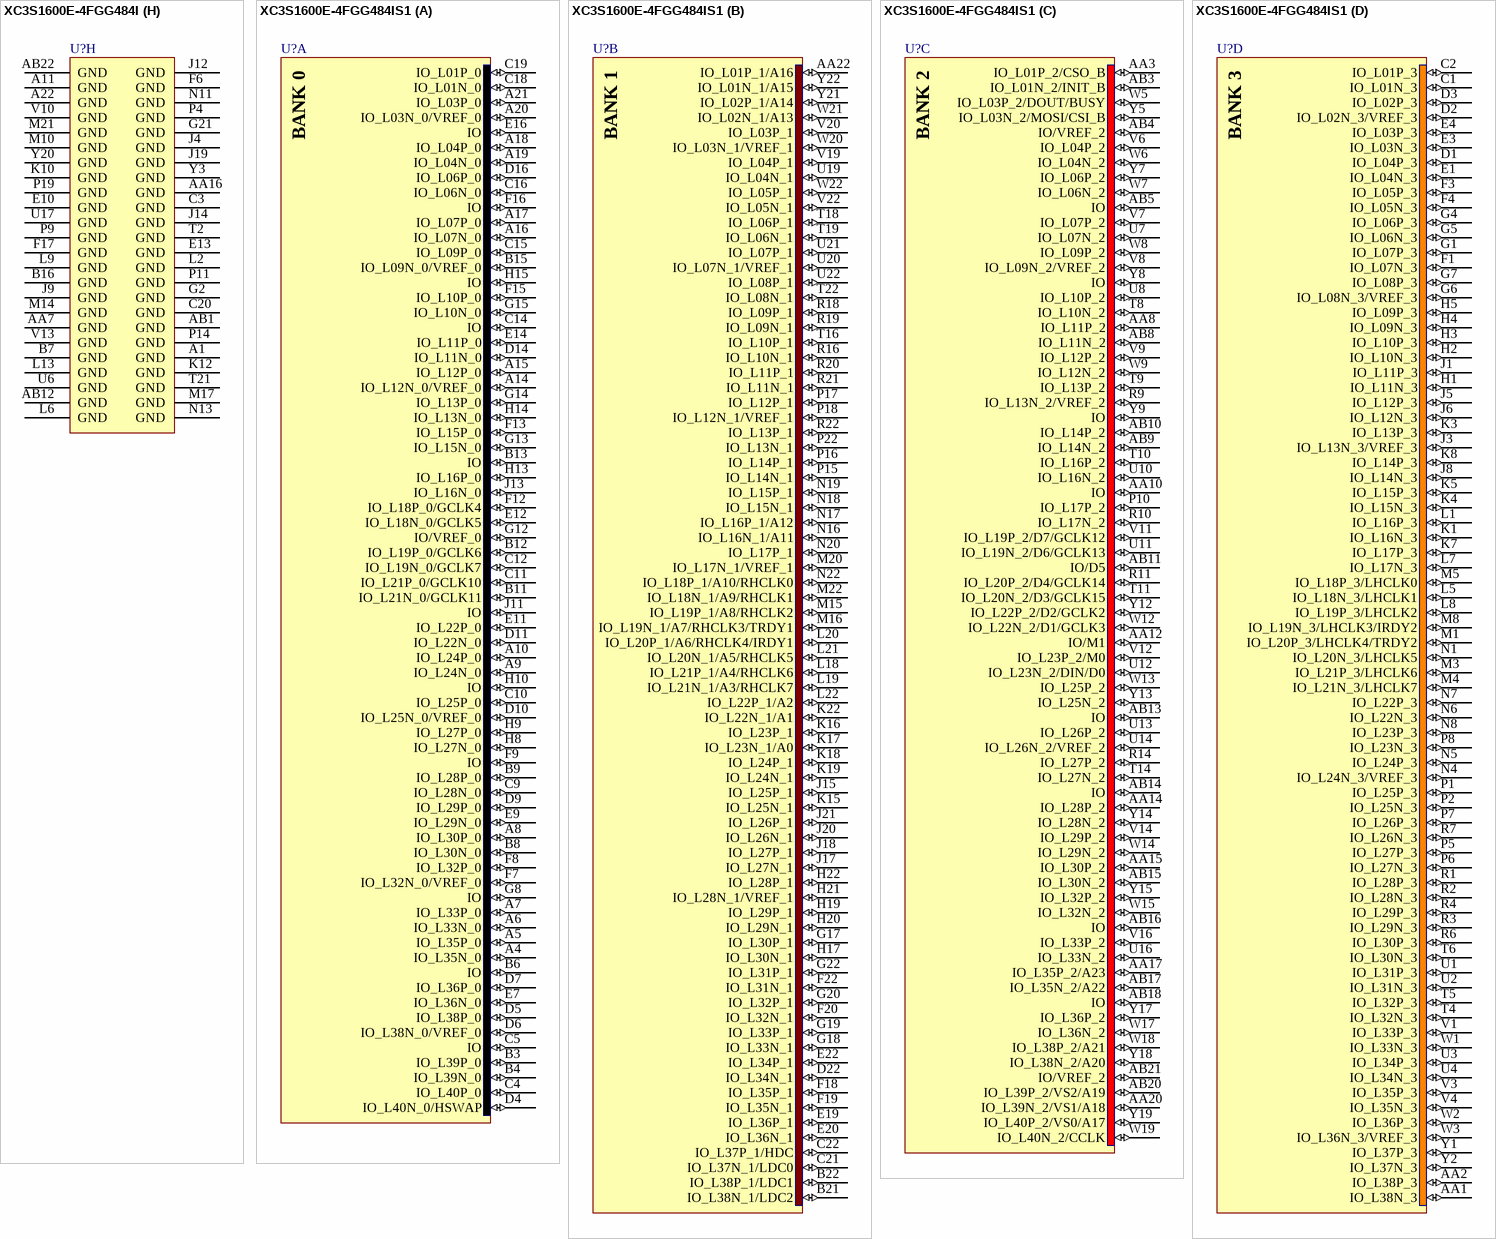
[diagram p174: symbols XC3S1600E-4FGG484I to XC3S1600E-4FGG484IS1]

## XC3S1600E-4FGG484I
designator U?
Spartan-3E 1.2V FPGA, 376 User I/Os, 484-Ball FBGA, Standard Performance, Industrial Grade, Pb-Free; Published: 6-Jun-2005; LatestRevisionDate: 30-Oct-2009; LatestRevisionNote: Updated to datasheet version 3.8 Aug-2009.; DatasheetVersion: ver3.8, Aug-2009; PackageVersion: ver1.1, Dec-2008; PackageReference: FGG484; Publisher: Altium Limited; PackageDescription: 484-Ball Fine Pitch Ball Grid Array 1.00 mm Pitch (FGG484) - Pb-Free; Supplier 1: Digi-Key; Supplier Part Number 1: XC3S1600E-4FGG484I-ND; Code_JEDEC: MS-034-AAJ-1; Code_IPC: BGA100P22X22-484; ComponentLink1Description: Spartan-3E Datasheet; ComponentLink1URL: http://www.xilinx.com/support/documentation/data_sheets/ds312.pdf; ComponentLink2Description: FGG484 Package Drawing; ComponentLink2URL: http://www.xilinx.com/support/documentation/package_specs/fg484.pdf; ComponentLink3Description: Spartan-3E Documents; ComponentLink3URL: http://www.xilinx.com/support/documentation/spartan-3e.htm; ComponentLink4Description: Xilinx.com Home; ComponentLink4URL: http://www.xilinx.com
footprint FGG484 (BGA, 484-Leads, Body 23x23mm, Pitch 1mm)
signal-integrity model XC3S1600E_FGG484 (Spartan-3E)
part A pins: A4 IO_L35N_0 (io), A5 IO_L35P_0 (io), A6 IO_L33N_0 (io), A7 IO_L33P_0 (io), A8 IO_L30P_0 (io), A9 IO_L24N_0 (io), A10 IO_L24P_0 (io), A14 IO_L12N_0/VREF_0 (io), A15 IO_L12P_0 (io), A16 IO_L07N_0 (io), A17 IO_L07P_0 (io), A18 IO_L04P_0 (io), A19 IO_L04N_0 (io), A20 IO_L03N_0/VREF_0 (io), A21 IO_L03P_0 (io), B3 IO_L39P_0 (io), B4 IO_L39N_0 (io), B6 IO (io), B8 IO_L30N_0 (io), B9 IO_L28P_0 (io), B11 IO_L21N_0/GCLK11 (io), B12 IO_L19P_0/GCLK6 (io), B13 IO (io), B15 IO_L09N_0/VREF_0 (io), C4 IO_L40P_0 (io), C5 IO (io), C9 IO_L28N_0 (io), C10 IO_L25P_0 (io), C11 IO_L21P_0/GCLK10 (io), C12 IO_L19N_0/GCLK7 (io), C14 IO (io), C15 IO_L09P_0 (io), C16 IO_L06N_0 (io), C18 IO_L01N_0 (io), C19 IO_L01P_0 (io), D4 IO_L40N_0/HSWAP (io), D5 IO_L38P_0 (io), D6 IO_L38N_0/VREF_0 (io), D7 IO_L36P_0 (io), D9 IO_L29P_0 (io), D10 IO_L25N_0/VREF_0 (io), D11 IO_L22N_0 (io), D14 IO_L11N_0 (io), D16 IO_L06P_0 (io), E7 IO_L36N_0 (io), E9 IO_L29N_0 (io), E11 IO_L22P_0 (io), E12 IO_L18N_0/GCLK5 (io), E14 IO_L11P_0 (io), E16 IO (io), F7 IO_L32N_0/VREF_0 (io), F8 IO_L32P_0 (io), F9 IO (io), F12 IO_L18P_0/GCLK4 (io), F13 IO_L15P_0 (io), F15 IO_L10P_0 (io), F16 IO (io), G8 IO (io), G12 IO/VREF_0 (io), G13 IO_L15N_0 (io), G14 IO_L13P_0 (io), G15 IO_L10N_0 (io), H8 IO_L27N_0 (io), H9 IO_L27P_0 (io), H10 IO (io), H13 IO_L16P_0 (io), H14 IO_L13N_0 (io), H15 IO (io), J11 IO (io), J13 IO_L16N_0 (io)
part B pins: AA22 IO_L01P_1/A16 (io), B21 IO_L38N_1/LDC2 (io), B22 IO_L38P_1/LDC1 (io), C21 IO_L37N_1/LDC0 (io), C22 IO_L37P_1/HDC (io), D22 IO_L34N_1 (io), E19 IO_L36P_1 (io), E20 IO_L36N_1 (io), E22 IO_L34P_1 (io), F18 IO_L35P_1 (io), F19 IO_L35N_1 (io), F20 IO_L32N_1 (io), F22 IO_L31N_1 (io), G17 IO_L30P_1 (io), G18 IO_L33N_1 (io), G19 IO_L33P_1 (io), G20 IO_L32P_1 (io), G22 IO_L31P_1 (io), H17 IO_L30N_1 (io), H19 IO_L29P_1 (io), H20 IO_L29N_1 (io), H21 IO_L28N_1/VREF_1 (io), H22 IO_L28P_1 (io), J15 IO_L25P_1 (io), J17 IO_L27N_1 (io), J18 IO_L27P_1 (io), J20 IO_L26N_1 (io), J21 IO_L26P_1 (io), K15 IO_L25N_1 (io), K16 IO_L23P_1 (io), K17 IO_L23N_1/A0 (io), K18 IO_L24P_1 (io), K19 IO_L24N_1 (io), K22 IO_L22N_1/A1 (io), L18 IO_L21P_1/A4/RHCLK6 (io), L19 IO_L21N_1/A3/RHCLK7 (io), L20 IO_L20P_1/A6/RHCLK4/IRDY1 (io), L21 IO_L20N_1/A5/RHCLK5 (io), L22 IO_L22P_1/A2 (io), M15 IO_L19P_1/A8/RHCLK2 (io), M16 IO_L19N_1/A7/RHCLK3/TRDY1 (io), M20 IO_L17N_1/VREF_1 (io), M22 IO_L18N_1/A9/RHCLK1 (io), N16 IO_L16N_1/A11 (io), N17 IO_L16P_1/A12 (io), N18 IO_L15N_1 (io), N19 IO_L15P_1 (io), N20 IO_L17P_1 (io), N22 IO_L18P_1/A10/RHCLK0 (io), P15 IO_L14N_1 (io), P16 IO_L14P_1 (io), P17 IO_L12P_1 (io), P18 IO_L12N_1/VREF_1 (io), P22 IO_L13N_1 (io), R16 IO_L10N_1 (io), R18 IO_L09P_1 (io), R19 IO_L09N_1 (io), R20 IO_L11P_1 (io), R21 IO_L11N_1 (io), R22 IO_L13P_1 (io), T16 IO_L10P_1 (io), T18 IO_L06P_1 (io), T19 IO_L06N_1 (io), T22 IO_L08N_1 (io), U19 IO_L04N_1 (io), U20 IO_L07N_1/VREF_1 (io), U21 IO_L07P_1 (io), U22 IO_L08P_1 (io), V19 IO_L04P_1 (io), V20 IO_L03P_1 (io), V22 IO_L05N_1 (io), W20 IO_L03N_1/VREF_1 (io), W21 IO_L02N_1/A13 (io), W22 IO_L05P_1 (io), Y21 IO_L02P_1/A14 (io), Y22 IO_L01N_1/A15 (io)
part C pins: AA3 IO_L01P_2/CSO_B (io), AA8 IO_L11P_2 (io), AA10 IO (io), AA12 IO/M1 (io), AA14 IO_L28P_2 (io), AA15 IO_L30P_2 (io), AA17 IO_L35P_2/A23 (io), AA20 IO_L39N_2/VS1/A18 (io), AB3 IO_L01N_2/INIT_B (io), AB4 IO/VREF_2 (io), AB5 IO (io), AB8 IO_L11N_2 (io), AB9 IO_L14N_2 (io), AB10 IO_L14P_2 (io), AB11 IO/D5 (io), AB13 IO (io), AB14 IO (io), AB15 IO_L30N_2 (io), AB16 IO (io), AB17 IO_L35N_2/A22 (io), AB18 IO (io), AB20 IO_L39P_2/VS2/A19 (io), AB21 IO/VREF_2 (io), P10 IO_L17P_2 (io), R9 IO_L13N_2/VREF_2 (io), R10 IO_L17N_2 (io), R11 IO_L20P_2/D4/GCLK14 (io), R14 IO_L27P_2 (io), T8 IO_L10N_2 (io), T9 IO_L13P_2 (io), T10 IO_L16P_2 (io), T11 IO_L20N_2/D3/GCLK15 (io), T14 IO_L27N_2 (io), U7 IO_L07N_2 (io), U8 IO_L10P_2 (io), U10 IO_L16N_2 (io), U11 IO_L19N_2/D6/GCLK13 (io), U12 IO_L23N_2/DIN/D0 (io), U13 IO_L26P_2 (io), U14 IO_L26N_2/VREF_2 (io), U16 IO_L33N_2 (io), V6 IO_L04P_2 (io), V7 IO_L07P_2 (io), V8 IO_L09N_2/VREF_2 (io), V9 IO_L12P_2 (io), V11 IO_L19P_2/D7/GCLK12 (io), V12 IO_L23P_2/M0 (io), V14 IO_L29P_2 (io), V16 IO_L33P_2 (io), W5 IO_L03P_2/DOUT/BUSY (io), W6 IO_L04N_2 (io), W7 IO_L06N_2 (io), W8 IO_L09P_2 (io), W9 IO_L12N_2 (io), W12 IO_L22N_2/D1/GCLK3 (io), W13 IO_L25P_2 (io), W14 IO_L29N_2 (io), W15 IO_L32N_2 (io), W17 IO_L36N_2 (io), W18 IO_L38P_2/A21 (io), W19 IO_L40N_2/CCLK (io), Y5 IO_L03N_2/MOSI/CSI_B (io), Y7 IO_L06P_2 (io), Y8 IO (io), Y9 IO (io), Y12 IO_L22P_2/D2/GCLK2 (io), Y13 IO_L25N_2 (io), Y14 IO_L28N_2 (io), Y15 IO_L32P_2 (io), Y17 IO_L36P_2 (io), Y18 IO_L38N_2/A20 (io), Y19 IO_L40P_2/VS0/A17 (io)
part D pins: AA1 IO_L38N_3 (io), AA2 IO_L38P_3 (io), C1 IO_L01N_3 (io), C2 IO_L01P_3 (io), D1 IO_L04P_3 (io), D2 IO_L02N_3/VREF_3 (io), D3 IO_L02P_3 (io), E1 IO_L04N_3 (io), E3 IO_L03N_3 (io), E4 IO_L03P_3 (io), F1 IO_L07N_3 (io), F3 IO_L05P_3 (io), F4 IO_L05N_3 (io), G1 IO_L07P_3 (io), G4 IO_L06P_3 (io), G5 IO_L06N_3 (io), G6 IO_L08N_3/VREF_3 (io), G7 IO_L08P_3 (io), H1 IO_L11N_3 (io), H2 IO_L10N_3 (io), H3 IO_L10P_3 (io), H4 IO_L09N_3 (io), H5 IO_L09P_3 (io), J1 IO_L11P_3 (io), J3 IO_L13N_3/VREF_3 (io), J5 IO_L12P_3 (io), J6 IO_L12N_3 (io), J8 IO_L14N_3 (io), K1 IO_L16N_3 (io), K3 IO_L13P_3 (io), K4 IO_L15N_3 (io), K5 IO_L15P_3 (io), K7 IO_L17P_3 (io), K8 IO_L14P_3 (io), L1 IO_L16P_3 (io), L5 IO_L18N_3/LHCLK1 (io), L7 IO_L17N_3 (io), L8 IO_L19P_3/LHCLK2 (io), M1 IO_L20P_3/LHCLK4/TRDY2 (io), M3 IO_L21P_3/LHCLK6 (io), M4 IO_L21N_3/LHCLK7 (io), M5 IO_L18P_3/LHCLK0 (io), M8 IO_L19N_3/LHCLK3/IRDY2 (io), N1 IO_L20N_3/LHCLK5 (io), N4 IO_L24N_3/VREF_3 (io), N5 IO_L24P_3 (io), N6 IO_L22N_3 (io), N7 IO_L22P_3 (io), N8 IO_L23P_3 (io), P1 IO_L25P_3 (io), P2 IO_L25N_3 (io), P5 IO_L27P_3 (io), P6 IO_L27N_3 (io), P7 IO_L26P_3 (io), P8 IO_L23N_3 (io), R1 IO_L28P_3 (io), R2 IO_L28N_3 (io), R3 IO_L29N_3 (io), R4 IO_L29P_3 (io), R6 IO_L30P_3 (io), R7 IO_L26N_3 (io), T4 IO_L32N_3 (io), T5 IO_L32P_3 (io), T6 IO_L30N_3 (io), U1 IO_L31P_3 (io), U2 IO_L31N_3 (io), U3 IO_L34P_3 (io), U4 IO_L34N_3 (io), V1 IO_L33P_3 (io), V3 IO_L35P_3 (io), V4 IO_L35N_3 (io), W1 IO_L33N_3 (io), W2 IO_L36P_3 (io), W3 IO_L36N_3/VREF_3 (io), Y1 IO_L37P_3 (io), Y2 IO_L37N_3 (io)
part E pins: A2 IP_L37P_0 (in), A3 IP_L37N_0 (in), A12 IP_L17N_0 (in), A13 IP_L17P_0 (in), AA4 IP_L02N_2 (in), AA6 IP_L05P_2 (in), AA11 IP_L18N_2/VREF_2 (in), AA19 IP_L37N_2 (in), AB2 IP (in), AB6 IP_L08P_2 (in), AB7 IP_L08N_2 (in), AB19 IP_L37P_2 (in), B17 IP_L05P_0 (in), B19 IP (in), C6 IP_L34P_0 (in), C7 IP_L34N_0 (in), C8 IP_L31N_0 (in), C13 IP_L14P_0 (in), C17 IP_L05N_0 (in), D8 IP_L31P_0 (in), D13 IP_L14N_0 (in), D15 IP_L08P_0 (in), D17 IP_L02N_0 (in), D18 IP_L02P_0 (in), D20 IP (in), D21 IP/VREF_1 (in), E6 IP (in), E15 IP_L08N_0 (in), F2 IP (in), F5 IP (in), F10 IP_L23N_0 (in), F11 IP_L23P_0 (in), F21 IP (in), G3 IP (in), G9 IP_L26N_0 (in), G10 IP_L26P_0 (in), G16 IP (in), H7 IP (in), H11 IP_L20N_0/GCLK9 (in), H12 IP_L20P_0/GCLK8 (in), H16 IP (in), J7 IP (in), J16 IP (in), J22 IP (in), K2 IP (in), K6 IP (in), K20 IP (in), L3 IP/VREF_3 (in), L15 IP (in), L17 IP/VREF_1 (in), M2 IP (in), M6 IP (in), M18 IP (in), N3 IP (in), N15 IP (in), N21 IP (in), P3 IP (in), P12 IP_L21N_2/M2/GCLK1 (in), P20 IP (in), R8 IP (in), R12 IP_L21P_2/RDWR_B/GCLK0 (in), R13 IP_L24N_2 (in), R15 IP (in), T1 IP (in), T3 IP/VREF_3 (in), T7 IP (in), T13 IP_L24P_2 (in), T15 IP_L31N_2/VREF_2 (in), T17 IP (in), T20 IP (in), U5 IP (in), U15 IP_L31P_2 (in), U18 IP (in), V17 IP (in), W4 IP (in), W10 IP_L15P_2 (in), W16 IP_L34P_2 (in), Y4 IP_L02P_2 (in), Y6 IP_L05N_2 (in), Y10 IP_L15N_2 (in), Y11 IP_L18P_2 (in), Y16 IP_L34N_2 (in)
part F pins: AA21 DONE (io), B1 PROG_B (in), B2 TDI (in), B20 TDO (out), D19 TMS (in), E17 TCK (in)
part G pins: AA5 VCCO_2 (power), AA9 VCCO_2 (power), AA13 VCCO_2 (power), AA18 VCCO_2 (power), B5 VCCO_0 (power), B10 VCCO_0 (power), B14 VCCO_0 (power), B18 VCCO_0 (power), D12 VCCAUX (power), E2 VCCO_3 (power), E5 VCCAUX (power), E8 VCCO_0 (power), E18 VCCAUX (power), E21 VCCO_1 (power), F14 VCCO_0 (power), G11 VCCO_0 (power), H6 VCCO_3 (power), H18 VCCO_1 (power), J2 VCCO_3 (power), J10 VCCINT (power), K9 VCCINT (power), K11 VCCINT (power), K13 VCCINT (power), K14 VCCAUX (power), K21 VCCO_1 (power), L4 VCCAUX (power), L10 VCCINT (power), L11 VCCINT (power), L12 VCCINT (power), L14 VCCINT (power), L16 VCCO_1 (power), M7 VCCO_3 (power), M9 VCCINT (power), M11 VCCINT (power), M12 VCCINT (power), M13 VCCINT (power), M19 VCCAUX (power), N2 VCCO_3 (power), N9 VCCAUX (power), N10 VCCINT (power), N12 VCCINT (power), N14 VCCINT (power), P13 VCCINT (power), P21 VCCO_1 (power), R5 VCCO_3 (power), R17 VCCO_1 (power), T12 VCCO_2 (power), U9 VCCO_2 (power), V2 VCCO_3 (power), V5 VCCAUX (power), V15 VCCO_2 (power), V18 VCCAUX (power), V21 VCCO_1 (power), W11 VCCAUX (power)
part H pins: A1 GND (power), A11 GND (power), A22 GND (power), AA7 GND (power), AA16 GND (power), AB1 GND (power), AB12 GND (power), AB22 GND (power), B7 GND (power), B16 GND (power), C3 GND (power), C20 GND (power), E10 GND (power), E13 GND (power), F6 GND (power), F17 GND (power), G2 GND (power), G21 GND (power), J4 GND (power), J9 GND (power), J12 GND (power), J14 GND (power), J19 GND (power), K10 GND (power), K12 GND (power), L2 GND (power), L6 GND (power), L9 GND (power), L13 GND (power), M10 GND (power), M14 GND (power), M17 GND (power), M21 GND (power), N11 GND (power), N13 GND (power), P4 GND (power), P9 GND (power), P11 GND (power), P14 GND (power), P19 GND (power), T2 GND (power), T21 GND (power), U6 GND (power), U17 GND (power), V10 GND (power), V13 GND (power), Y3 GND (power), Y20 GND (power)
part A text: BANK 0
part B text: BANK 1
part C text: BANK 2
part D text: BANK 3

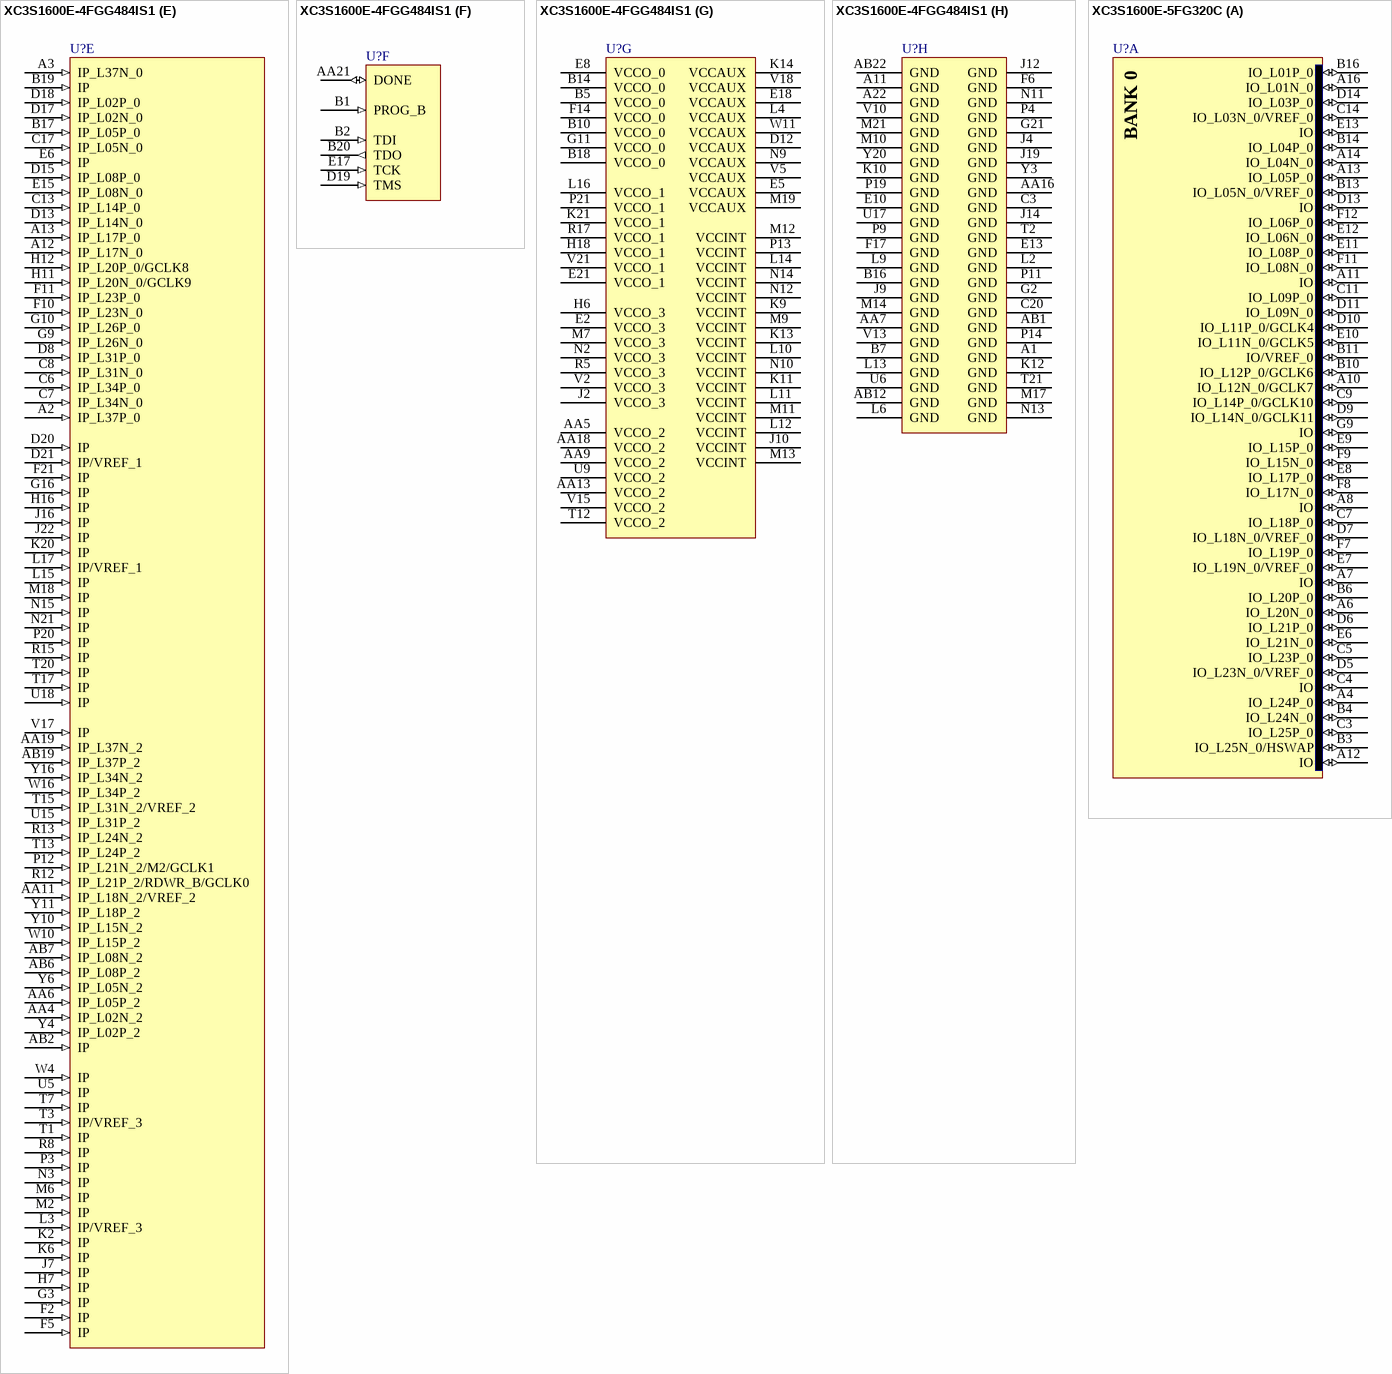
[diagram p175: symbols XC3S1600E-4FGG484IS1 to XC3S1600E-5FG320C]

## XC3S1600E-4FGG484IS1
designator U?
Spartan-3E 1.2V FPGA, 376 User I/Os, 484-Ball FBGA, Standard Performance, Industrial Grade, Stepping 1, Pb-Free; Published: 14-May-2007; LatestRevisionDate: 30-Oct-2009; LatestRevisionNote: Updated to datasheet version 3.8 Aug-2009.; DatasheetVersion: ver3.8, Aug-2009; PackageVersion: ver1.1, Dec-2008; PackageReference: FGG484; Publisher: Altium Limited; PackageDescription: 484-Ball Fine Pitch Ball Grid Array 1.00 mm Pitch (FGG484) - Pb-Free; Code_JEDEC: MS-034-AAJ-1; Code_IPC: BGA100P22X22-484; ComponentLink1Description: Spartan-3E Datasheet; ComponentLink1URL: http://www.xilinx.com/support/documentation/data_sheets/ds312.pdf; ComponentLink2Description: FGG484 Package Drawing; ComponentLink2URL: http://www.xilinx.com/support/documentation/package_specs/fg484.pdf; ComponentLink3Description: Spartan-3E Documents; ComponentLink3URL: http://www.xilinx.com/support/documentation/spartan-3e.htm; ComponentLink4Description: Xilinx.com Home; ComponentLink4URL: http://www.xilinx.com
footprint FGG484 (BGA, 484-Leads, Body 23x23mm, Pitch 1mm)
signal-integrity model XC3S1600E_FGG484 (Spartan-3E)
part A pins: A4 IO_L35N_0 (io), A5 IO_L35P_0 (io), A6 IO_L33N_0 (io), A7 IO_L33P_0 (io), A8 IO_L30P_0 (io), A9 IO_L24N_0 (io), A10 IO_L24P_0 (io), A14 IO_L12N_0/VREF_0 (io), A15 IO_L12P_0 (io), A16 IO_L07N_0 (io), A17 IO_L07P_0 (io), A18 IO_L04P_0 (io), A19 IO_L04N_0 (io), A20 IO_L03N_0/VREF_0 (io), A21 IO_L03P_0 (io), B3 IO_L39P_0 (io), B4 IO_L39N_0 (io), B6 IO (io), B8 IO_L30N_0 (io), B9 IO_L28P_0 (io), B11 IO_L21N_0/GCLK11 (io), B12 IO_L19P_0/GCLK6 (io), B13 IO (io), B15 IO_L09N_0/VREF_0 (io), C4 IO_L40P_0 (io), C5 IO (io), C9 IO_L28N_0 (io), C10 IO_L25P_0 (io), C11 IO_L21P_0/GCLK10 (io), C12 IO_L19N_0/GCLK7 (io), C14 IO (io), C15 IO_L09P_0 (io), C16 IO_L06N_0 (io), C18 IO_L01N_0 (io), C19 IO_L01P_0 (io), D4 IO_L40N_0/HSWAP (io), D5 IO_L38P_0 (io), D6 IO_L38N_0/VREF_0 (io), D7 IO_L36P_0 (io), D9 IO_L29P_0 (io), D10 IO_L25N_0/VREF_0 (io), D11 IO_L22N_0 (io), D14 IO_L11N_0 (io), D16 IO_L06P_0 (io), E7 IO_L36N_0 (io), E9 IO_L29N_0 (io), E11 IO_L22P_0 (io), E12 IO_L18N_0/GCLK5 (io), E14 IO_L11P_0 (io), E16 IO (io), F7 IO_L32N_0/VREF_0 (io), F8 IO_L32P_0 (io), F9 IO (io), F12 IO_L18P_0/GCLK4 (io), F13 IO_L15P_0 (io), F15 IO_L10P_0 (io), F16 IO (io), G8 IO (io), G12 IO/VREF_0 (io), G13 IO_L15N_0 (io), G14 IO_L13P_0 (io), G15 IO_L10N_0 (io), H8 IO_L27N_0 (io), H9 IO_L27P_0 (io), H10 IO (io), H13 IO_L16P_0 (io), H14 IO_L13N_0 (io), H15 IO (io), J11 IO (io), J13 IO_L16N_0 (io)
part B pins: AA22 IO_L01P_1/A16 (io), B21 IO_L38N_1/LDC2 (io), B22 IO_L38P_1/LDC1 (io), C21 IO_L37N_1/LDC0 (io), C22 IO_L37P_1/HDC (io), D22 IO_L34N_1 (io), E19 IO_L36P_1 (io), E20 IO_L36N_1 (io), E22 IO_L34P_1 (io), F18 IO_L35P_1 (io), F19 IO_L35N_1 (io), F20 IO_L32N_1 (io), F22 IO_L31N_1 (io), G17 IO_L30P_1 (io), G18 IO_L33N_1 (io), G19 IO_L33P_1 (io), G20 IO_L32P_1 (io), G22 IO_L31P_1 (io), H17 IO_L30N_1 (io), H19 IO_L29P_1 (io), H20 IO_L29N_1 (io), H21 IO_L28N_1/VREF_1 (io), H22 IO_L28P_1 (io), J15 IO_L25P_1 (io), J17 IO_L27N_1 (io), J18 IO_L27P_1 (io), J20 IO_L26N_1 (io), J21 IO_L26P_1 (io), K15 IO_L25N_1 (io), K16 IO_L23P_1 (io), K17 IO_L23N_1/A0 (io), K18 IO_L24P_1 (io), K19 IO_L24N_1 (io), K22 IO_L22N_1/A1 (io), L18 IO_L21P_1/A4/RHCLK6 (io), L19 IO_L21N_1/A3/RHCLK7 (io), L20 IO_L20P_1/A6/RHCLK4/IRDY1 (io), L21 IO_L20N_1/A5/RHCLK5 (io), L22 IO_L22P_1/A2 (io), M15 IO_L19P_1/A8/RHCLK2 (io), M16 IO_L19N_1/A7/RHCLK3/TRDY1 (io), M20 IO_L17N_1/VREF_1 (io), M22 IO_L18N_1/A9/RHCLK1 (io), N16 IO_L16N_1/A11 (io), N17 IO_L16P_1/A12 (io), N18 IO_L15N_1 (io), N19 IO_L15P_1 (io), N20 IO_L17P_1 (io), N22 IO_L18P_1/A10/RHCLK0 (io), P15 IO_L14N_1 (io), P16 IO_L14P_1 (io), P17 IO_L12P_1 (io), P18 IO_L12N_1/VREF_1 (io), P22 IO_L13N_1 (io), R16 IO_L10N_1 (io), R18 IO_L09P_1 (io), R19 IO_L09N_1 (io), R20 IO_L11P_1 (io), R21 IO_L11N_1 (io), R22 IO_L13P_1 (io), T16 IO_L10P_1 (io), T18 IO_L06P_1 (io), T19 IO_L06N_1 (io), T22 IO_L08N_1 (io), U19 IO_L04N_1 (io), U20 IO_L07N_1/VREF_1 (io), U21 IO_L07P_1 (io), U22 IO_L08P_1 (io), V19 IO_L04P_1 (io), V20 IO_L03P_1 (io), V22 IO_L05N_1 (io), W20 IO_L03N_1/VREF_1 (io), W21 IO_L02N_1/A13 (io), W22 IO_L05P_1 (io), Y21 IO_L02P_1/A14 (io), Y22 IO_L01N_1/A15 (io)
part C pins: AA3 IO_L01P_2/CSO_B (io), AA8 IO_L11P_2 (io), AA10 IO (io), AA12 IO/M1 (io), AA14 IO_L28P_2 (io), AA15 IO_L30P_2 (io), AA17 IO_L35P_2/A23 (io), AA20 IO_L39N_2/VS1/A18 (io), AB3 IO_L01N_2/INIT_B (io), AB4 IO/VREF_2 (io), AB5 IO (io), AB8 IO_L11N_2 (io), AB9 IO_L14N_2 (io), AB10 IO_L14P_2 (io), AB11 IO/D5 (io), AB13 IO (io), AB14 IO (io), AB15 IO_L30N_2 (io), AB16 IO (io), AB17 IO_L35N_2/A22 (io), AB18 IO (io), AB20 IO_L39P_2/VS2/A19 (io), AB21 IO/VREF_2 (io), P10 IO_L17P_2 (io), R9 IO_L13N_2/VREF_2 (io), R10 IO_L17N_2 (io), R11 IO_L20P_2/D4/GCLK14 (io), R14 IO_L27P_2 (io), T8 IO_L10N_2 (io), T9 IO_L13P_2 (io), T10 IO_L16P_2 (io), T11 IO_L20N_2/D3/GCLK15 (io), T14 IO_L27N_2 (io), U7 IO_L07N_2 (io), U8 IO_L10P_2 (io), U10 IO_L16N_2 (io), U11 IO_L19N_2/D6/GCLK13 (io), U12 IO_L23N_2/DIN/D0 (io), U13 IO_L26P_2 (io), U14 IO_L26N_2/VREF_2 (io), U16 IO_L33N_2 (io), V6 IO_L04P_2 (io), V7 IO_L07P_2 (io), V8 IO_L09N_2/VREF_2 (io), V9 IO_L12P_2 (io), V11 IO_L19P_2/D7/GCLK12 (io), V12 IO_L23P_2/M0 (io), V14 IO_L29P_2 (io), V16 IO_L33P_2 (io), W5 IO_L03P_2/DOUT/BUSY (io), W6 IO_L04N_2 (io), W7 IO_L06N_2 (io), W8 IO_L09P_2 (io), W9 IO_L12N_2 (io), W12 IO_L22N_2/D1/GCLK3 (io), W13 IO_L25P_2 (io), W14 IO_L29N_2 (io), W15 IO_L32N_2 (io), W17 IO_L36N_2 (io), W18 IO_L38P_2/A21 (io), W19 IO_L40N_2/CCLK (io), Y5 IO_L03N_2/MOSI/CSI_B (io), Y7 IO_L06P_2 (io), Y8 IO (io), Y9 IO (io), Y12 IO_L22P_2/D2/GCLK2 (io), Y13 IO_L25N_2 (io), Y14 IO_L28N_2 (io), Y15 IO_L32P_2 (io), Y17 IO_L36P_2 (io), Y18 IO_L38N_2/A20 (io), Y19 IO_L40P_2/VS0/A17 (io)
part D pins: AA1 IO_L38N_3 (io), AA2 IO_L38P_3 (io), C1 IO_L01N_3 (io), C2 IO_L01P_3 (io), D1 IO_L04P_3 (io), D2 IO_L02N_3/VREF_3 (io), D3 IO_L02P_3 (io), E1 IO_L04N_3 (io), E3 IO_L03N_3 (io), E4 IO_L03P_3 (io), F1 IO_L07N_3 (io), F3 IO_L05P_3 (io), F4 IO_L05N_3 (io), G1 IO_L07P_3 (io), G4 IO_L06P_3 (io), G5 IO_L06N_3 (io), G6 IO_L08N_3/VREF_3 (io), G7 IO_L08P_3 (io), H1 IO_L11N_3 (io), H2 IO_L10N_3 (io), H3 IO_L10P_3 (io), H4 IO_L09N_3 (io), H5 IO_L09P_3 (io), J1 IO_L11P_3 (io), J3 IO_L13N_3/VREF_3 (io), J5 IO_L12P_3 (io), J6 IO_L12N_3 (io), J8 IO_L14N_3 (io), K1 IO_L16N_3 (io), K3 IO_L13P_3 (io), K4 IO_L15N_3 (io), K5 IO_L15P_3 (io), K7 IO_L17P_3 (io), K8 IO_L14P_3 (io), L1 IO_L16P_3 (io), L5 IO_L18N_3/LHCLK1 (io), L7 IO_L17N_3 (io), L8 IO_L19P_3/LHCLK2 (io), M1 IO_L20P_3/LHCLK4/TRDY2 (io), M3 IO_L21P_3/LHCLK6 (io), M4 IO_L21N_3/LHCLK7 (io), M5 IO_L18P_3/LHCLK0 (io), M8 IO_L19N_3/LHCLK3/IRDY2 (io), N1 IO_L20N_3/LHCLK5 (io), N4 IO_L24N_3/VREF_3 (io), N5 IO_L24P_3 (io), N6 IO_L22N_3 (io), N7 IO_L22P_3 (io), N8 IO_L23P_3 (io), P1 IO_L25P_3 (io), P2 IO_L25N_3 (io), P5 IO_L27P_3 (io), P6 IO_L27N_3 (io), P7 IO_L26P_3 (io), P8 IO_L23N_3 (io), R1 IO_L28P_3 (io), R2 IO_L28N_3 (io), R3 IO_L29N_3 (io), R4 IO_L29P_3 (io), R6 IO_L30P_3 (io), R7 IO_L26N_3 (io), T4 IO_L32N_3 (io), T5 IO_L32P_3 (io), T6 IO_L30N_3 (io), U1 IO_L31P_3 (io), U2 IO_L31N_3 (io), U3 IO_L34P_3 (io), U4 IO_L34N_3 (io), V1 IO_L33P_3 (io), V3 IO_L35P_3 (io), V4 IO_L35N_3 (io), W1 IO_L33N_3 (io), W2 IO_L36P_3 (io), W3 IO_L36N_3/VREF_3 (io), Y1 IO_L37P_3 (io), Y2 IO_L37N_3 (io)
part E pins: A2 IP_L37P_0 (in), A3 IP_L37N_0 (in), A12 IP_L17N_0 (in), A13 IP_L17P_0 (in), AA4 IP_L02N_2 (in), AA6 IP_L05P_2 (in), AA11 IP_L18N_2/VREF_2 (in), AA19 IP_L37N_2 (in), AB2 IP (in), AB6 IP_L08P_2 (in), AB7 IP_L08N_2 (in), AB19 IP_L37P_2 (in), B17 IP_L05P_0 (in), B19 IP (in), C6 IP_L34P_0 (in), C7 IP_L34N_0 (in), C8 IP_L31N_0 (in), C13 IP_L14P_0 (in), C17 IP_L05N_0 (in), D8 IP_L31P_0 (in), D13 IP_L14N_0 (in), D15 IP_L08P_0 (in), D17 IP_L02N_0 (in), D18 IP_L02P_0 (in), D20 IP (in), D21 IP/VREF_1 (in), E6 IP (in), E15 IP_L08N_0 (in), F2 IP (in), F5 IP (in), F10 IP_L23N_0 (in), F11 IP_L23P_0 (in), F21 IP (in), G3 IP (in), G9 IP_L26N_0 (in), G10 IP_L26P_0 (in), G16 IP (in), H7 IP (in), H11 IP_L20N_0/GCLK9 (in), H12 IP_L20P_0/GCLK8 (in), H16 IP (in), J7 IP (in), J16 IP (in), J22 IP (in), K2 IP (in), K6 IP (in), K20 IP (in), L3 IP/VREF_3 (in), L15 IP (in), L17 IP/VREF_1 (in), M2 IP (in), M6 IP (in), M18 IP (in), N3 IP (in), N15 IP (in), N21 IP (in), P3 IP (in), P12 IP_L21N_2/M2/GCLK1 (in), P20 IP (in), R8 IP (in), R12 IP_L21P_2/RDWR_B/GCLK0 (in), R13 IP_L24N_2 (in), R15 IP (in), T1 IP (in), T3 IP/VREF_3 (in), T7 IP (in), T13 IP_L24P_2 (in), T15 IP_L31N_2/VREF_2 (in), T17 IP (in), T20 IP (in), U5 IP (in), U15 IP_L31P_2 (in), U18 IP (in), V17 IP (in), W4 IP (in), W10 IP_L15P_2 (in), W16 IP_L34P_2 (in), Y4 IP_L02P_2 (in), Y6 IP_L05N_2 (in), Y10 IP_L15N_2 (in), Y11 IP_L18P_2 (in), Y16 IP_L34N_2 (in)
part F pins: AA21 DONE (io), B1 PROG_B (in), B2 TDI (in), B20 TDO (out), D19 TMS (in), E17 TCK (in)
part G pins: AA5 VCCO_2 (power), AA9 VCCO_2 (power), AA13 VCCO_2 (power), AA18 VCCO_2 (power), B5 VCCO_0 (power), B10 VCCO_0 (power), B14 VCCO_0 (power), B18 VCCO_0 (power), D12 VCCAUX (power), E2 VCCO_3 (power), E5 VCCAUX (power), E8 VCCO_0 (power), E18 VCCAUX (power), E21 VCCO_1 (power), F14 VCCO_0 (power), G11 VCCO_0 (power), H6 VCCO_3 (power), H18 VCCO_1 (power), J2 VCCO_3 (power), J10 VCCINT (power), K9 VCCINT (power), K11 VCCINT (power), K13 VCCINT (power), K14 VCCAUX (power), K21 VCCO_1 (power), L4 VCCAUX (power), L10 VCCINT (power), L11 VCCINT (power), L12 VCCINT (power), L14 VCCINT (power), L16 VCCO_1 (power), M7 VCCO_3 (power), M9 VCCINT (power), M11 VCCINT (power), M12 VCCINT (power), M13 VCCINT (power), M19 VCCAUX (power), N2 VCCO_3 (power), N9 VCCAUX (power), N10 VCCINT (power), N12 VCCINT (power), N14 VCCINT (power), P13 VCCINT (power), P21 VCCO_1 (power), R5 VCCO_3 (power), R17 VCCO_1 (power), T12 VCCO_2 (power), U9 VCCO_2 (power), V2 VCCO_3 (power), V5 VCCAUX (power), V15 VCCO_2 (power), V18 VCCAUX (power), V21 VCCO_1 (power), W11 VCCAUX (power)
part H pins: A1 GND (power), A11 GND (power), A22 GND (power), AA7 GND (power), AA16 GND (power), AB1 GND (power), AB12 GND (power), AB22 GND (power), B7 GND (power), B16 GND (power), C3 GND (power), C20 GND (power), E10 GND (power), E13 GND (power), F6 GND (power), F17 GND (power), G2 GND (power), G21 GND (power), J4 GND (power), J9 GND (power), J12 GND (power), J14 GND (power), J19 GND (power), K10 GND (power), K12 GND (power), L2 GND (power), L6 GND (power), L9 GND (power), L13 GND (power), M10 GND (power), M14 GND (power), M17 GND (power), M21 GND (power), N11 GND (power), N13 GND (power), P4 GND (power), P9 GND (power), P11 GND (power), P14 GND (power), P19 GND (power), T2 GND (power), T21 GND (power), U6 GND (power), U17 GND (power), V10 GND (power), V13 GND (power), Y3 GND (power), Y20 GND (power)
part A text: BANK 0
part B text: BANK 1
part C text: BANK 2
part D text: BANK 3

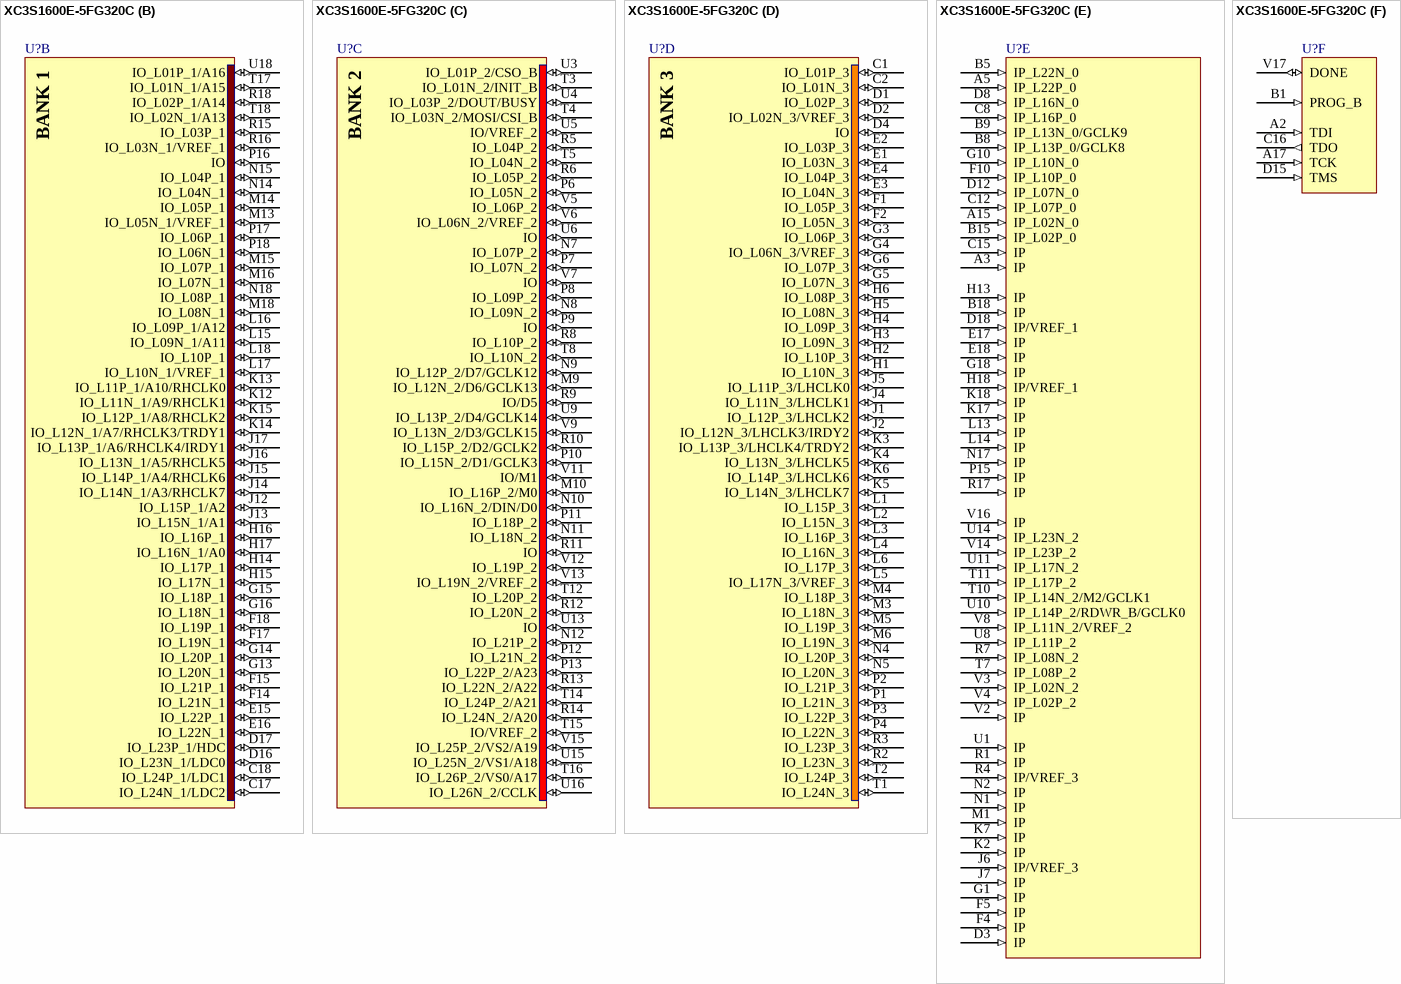
[diagram p176: symbol XC3S1600E-5FG320C]

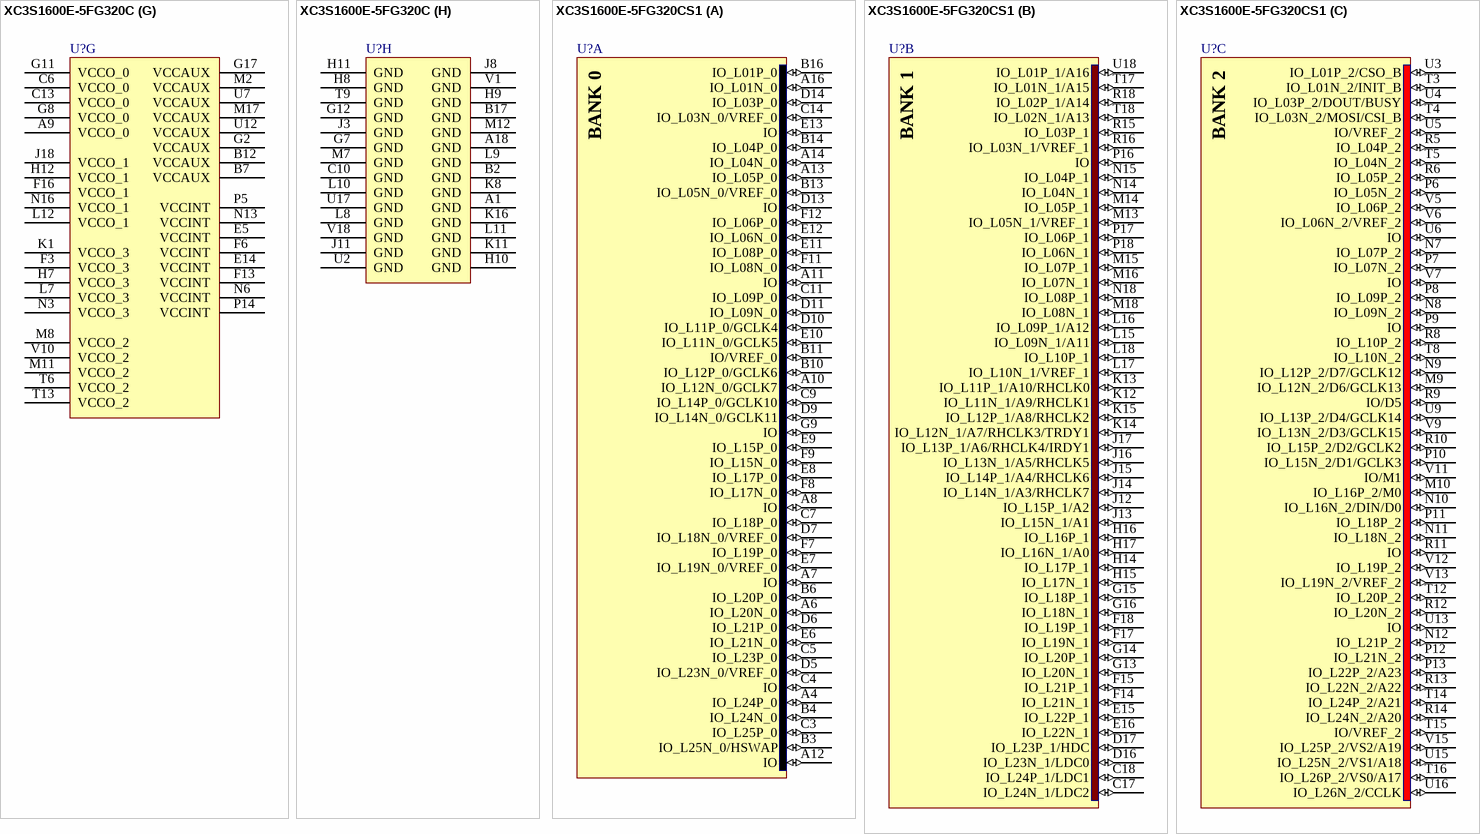
[diagram p177: symbols XC3S1600E-5FG320C to XC3S1600E-5FG320CS1]